# Altium schematic symbol library GRC sch library.SchLib: 282 symbols (part 1 of 3)
Pins are listed as number, name and electrical type; pins without a type are passive.

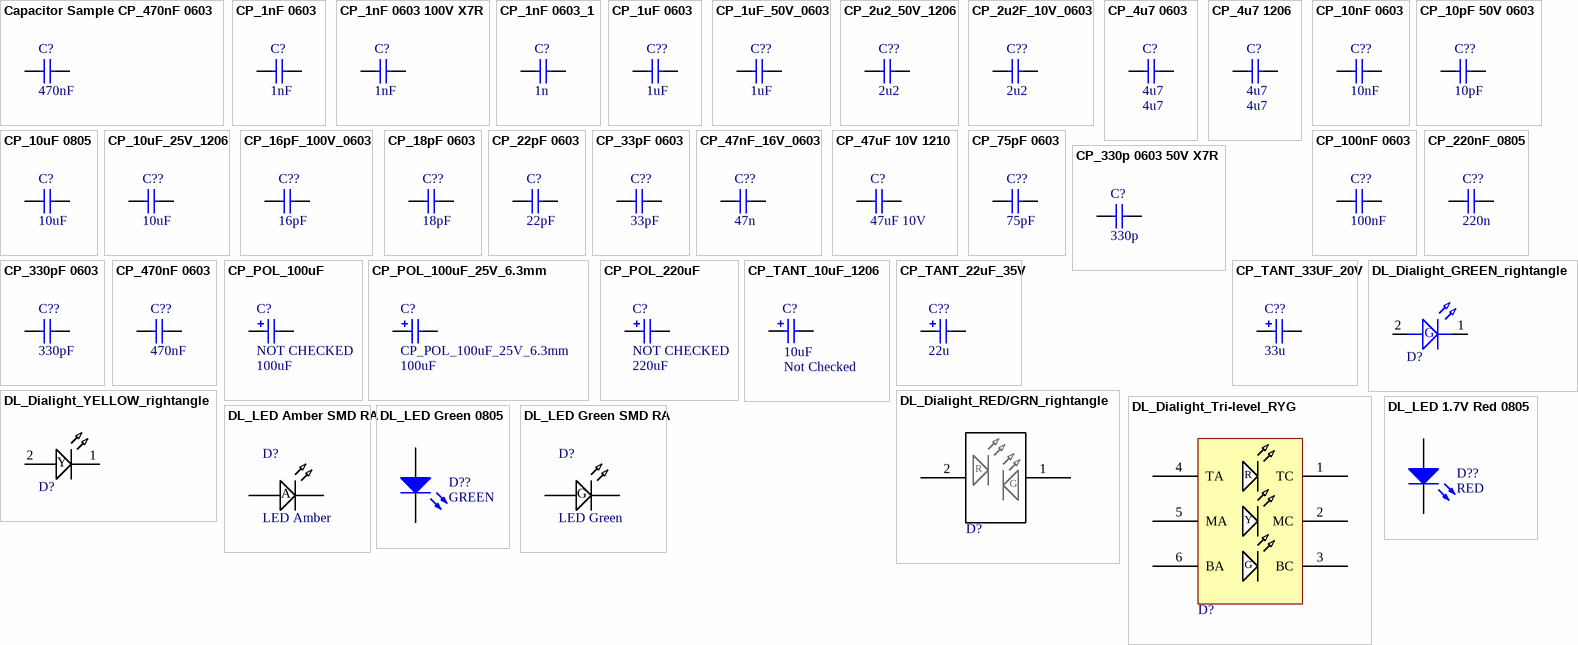
[diagram p0: symbols Capacitor Sample CP_470nF 0603 to DL_LED Green SMD RA]

## Capacitor Sample CP_470nF 0603
designator C?, comment 470nF
470nF 25V X5R 0603; Manufacturer: Taiyo Yuden; Manufacturer PN: TMK107BJ474KA-T; Prototype: Digikey 587-1247-1-ND; Value: 470nF
simulation model CAP (Capacitor)
signal-integrity model Cap
footprint 0603 (Non polarized 0603 footprint)
pins: 1, 2

## CP_1nF 0603
designator C?, comment 1nF
CAP CER 1000PF 50V 5% C0G 0603; Manufacturer: Murata Electronics North America; Manufacturer PN: GRM1885C1H102JA01D; Prototype: Digikey 490-1451-1-ND; LatestRevisionDate: 1 Jun 08; Value: 1nF
simulation model CAP (Capacitor)
signal-integrity model Cap
footprint 0603 (Non polarized 0603 footprint)
pins: 1, 2

## CP_1nF 0603 100V X7R
designator C?, comment 1nF
CAP CER 1000PF 100V X7R 0603; Manufacturer: Taiyo Yuden; Manufacturer PN: HMK107B7102KA-T; Prototype: Digikey 587-1445-1-ND; Value: 1nF
simulation model CAP (Capacitor)
signal-integrity model Cap
footprint 0603 (Non polarized 0603 footprint)
pins: 1, 2

## CP_1nF 0603_1
designator C?, comment 1n
CAP CER 1000PF 50V 5% C0G 0603; Manufacturer: Murata Electronics North America; Manufacturer PN: GRM1885C1H102JA01D; Prototype: Digikey 490-1451-1-ND; LatestRevisionDate: 1 Jun 08; Value: 1n
simulation model CAP (Capacitor)
signal-integrity model Cap
footprint 0603 (Non polarized 0603 footprint)
pins: 1, 2

## CP_1uF 0603
designator C??, comment 1uF
CAP CER 1.0UF 50V X5S 0603; Manufacturer: Taiyo Yuden; Manufacturer PN: UMK107C5105KA-T; Prototype: Digikey 587-1257-1-ND; Value: 1uF
simulation model CAP (Capacitor)
signal-integrity model Cap
footprint 0603 (Non polarized 0603 footprint)
pins: 1, 2

## CP_1uF_50V_0603
designator C??, comment 1uF
CAP CER 1.0UF 50V X5S 0603; Manufacturer: Taiyo Yuden; Manufacturer PN: UMK107C5105KA-T; Prototype: Digikey 587-1257-1-ND; Value: 1uF
simulation model CAP (Capacitor)
signal-integrity model Cap
footprint 0603 (Non polarized 0603 footprint)
pins: 1, 2

## CP_2u2_50V_1206
designator C??  value 2u2  (hidden comment: CP_2u2_50V_1206)
CAP CER 2u2 50V Y5V 1206; Manufacturer: Taiyo Yuden; Manufacturer PN: UMK316F225ZG-T; Prototype: Digikey 587-1351-1-ND; LatestRevisionDate: 29 May 08
simulation model CAP (Capacitor)
signal-integrity model Cap
footprint 1206 (Non-polarized 1206 footprint)
pins: 1, 2

## CP_2u2F_10V_0603
designator C??, comment 2u2
CAP CER 2.2UF 10V 10% X5R 0603; Manufacturer: Murata Electronics North America; Manufacturer PN: GRM188R61A225KE34D; Prototype: Digikey 490-1545-1-ND; Verify: not verified; LatestRevisionDate: 20 Feb 08; Value: 2u2
simulation model CAP (Capacitor)
signal-integrity model Cap
footprint 0603 (Non polarized 0603 footprint)
pins: 1, 2

## CP_4u7 0603
designator C?, comment 4u7
CAP CER 4.7UF 10V X5R 0603; Manufacturer: Taiyo Yuden LMK107BJ475KA-T; Prototype: Digikey 587-1441-1-ND; Modified Date: 29 May 08; LatestRevisionDate: 29 May 08; Value: 4u7
simulation model CAP (Capacitor)
footprint 0603 (Non polarized 0603 footprint)
pins: 1, 2

## CP_4u7 1206
designator C?, comment 4u7
CAP 4.7uF 10% 50V X5R 1206; Manufacturer: Taiyo Yuden UMK316BJ475KL-T; Prototype: Digikey 587-1962-2-ND; Modified Date: 29 May 08; LatestRevisionDate: 29 May 08; Value: 4u7
footprint 1206 (Non-polarized 1206 footprint)
simulation model CAP (Capacitor)
pins: 1, 2

## CP_10nF 0603
designator C??, comment 10nF
CAP CER 10000PF 100V X7R 0603; Manufacturer: Taiyo Yuden; Manufacturer PN: HMK107B7103KA-T; Prototype: Digikey 587-1446-1-ND; Value: 10nF
simulation model CAP (Capacitor)
signal-integrity model Cap
footprint 0603 (Non polarized 0603 footprint)
pins: 1, 2

## CP_10pF 50V 0603
designator C??, comment 10pF
CAP CERAMIC 10PF 50V NP0 0603; Manufacturer: Kemet; Manufacturer PN: C0603C100J5GACTU; Prototype: Digikey 399-1049-1-ND; Value: 10pF
simulation model CAP (Capacitor)
signal-integrity model Cap
footprint 0603 (Non polarized 0603 footprint)
pins: 1, 2

## CP_10uF 0805
designator C?, comment 10uF
CAP 10uF 10% 10V X5R 0805; Manufacturer: Murata; Manufacturer PN: GRM219R61A106KE44D; Prototype: Digikey 490-4735-1-ND; LatestRevisionDate: 29 May 08; Value: 10uF
footprint 0805 (Footprint not found)
pins: 1, 2

## CP_10uF_25V_1206
designator C??  value 10uF  (hidden comment: CP_10uF_25V_1206)
CAP CER 10uF 25V X5R 1206; Manufacturer: Panasonic; Manufacturer PN: ECJ-3YB1E106; Prototype: Digikey PCC2414CT-ND; LatestRevisionDate: 25 June 09
simulation model CAP (Capacitor)
signal-integrity model Cap
footprint 1206 (Non-polarized 1206 footprint)
pins: 1, 2

## CP_16pF_100V_0603
designator C??, comment 16pF
CAP CER 16PF 100V 5% C0G 0603; Manufacturer: Murata; Manufacturer PN: GRM1885C2A160JA01D; Prototype: Digikey 490-1332-1-ND; Value: 16pF
simulation model CAP (Capacitor)
signal-integrity model Cap
footprint 0603 (Non polarized 0603 footprint)
pins: 1, 2

## CP_18pF 0603
designator C??, comment 18pF
CAP CER 18PF 50V 5% C0G 0603; Manufacturer: Murata Electronics North America; Manufacturer PN: GRM1885C1H180JA01D; Prototype: Digikey 490-1409-1-ND; LatestRevisionDate: 1 Jun 08; Value: 18pF
simulation model CAP (Capacitor)
signal-integrity model Cap
footprint 0603 (Non polarized 0603 footprint)
pins: 1, 2

## CP_22pF 0603
designator C?, comment 22pF
CAP 22pF 5% 50V NP0 0603; Manufacturer: Murata; Manufacturer PN: GRM1885C1H220JA01D; Prototype: Digikey 490-1411-2-ND; LatestRevisionDate: 29 May 08; Value: 22pF
footprint 0603 (Non polarized 0603 footprint)
pins: 1, 2

## CP_33pF 0603
designator C??, comment 33pF
CAP CERAMIC 33PF 50V NP0 0603; Manufacturer: Yageo; Manufacturer PN: CC0603JRNP09BN330; Prototype: Digikey 311-1064-1-ND; LatestRevisionDate: 29 May 08; Value: 33pF
simulation model CAP (Capacitor)
signal-integrity model Cap
footprint 0603 (Non polarized 0603 footprint)
pins: 1, 2

## CP_47nF_16V_0603
designator C??, comment 47n
CAP CER 47nF 16V 10% X7R 0603; Manufacturer: Murata; Manufacturer PN: GRM188R71C473KA01D; Prototype: Digikey 490-1529-1-ND; Verify: NOT VERIFIED; LatestRevisionDate: 20 Feb 08; Value: 47n
simulation model CAP (Capacitor)
signal-integrity model Cap
footprint 0603 (Non polarized 0603 footprint)
pins: 1, 2

## CP_47uF 10V 1210
designator C?, comment 47uF 10V
CAP CER 47uF 10V X5R 1210; Manufacturer: Murata; Manufacturer PN: GRM32ER61A476KE20L; Prototype: Digikey 490-3887-1-ND; LatestRevisionDate: 29 May 08; Value: 47uF 10V
footprint 1210 (Chip Resistor, 1210, Body 3.2 x 2.5 mm (LxW typ))
pins: 1, 2

## CP_75pF 0603
designator C??  value 75pF  (hidden comment: CP_75pF 0603)
CAP CER 75PF 50V 5% C0G 0603; Manufacturer: Murata Electronics; Manufacturer PN: GRM1885C1H750JA01D; Prototype: Digikey 490-1424-1-ND; LatestRevisionDate: 29 May 08
simulation model CAP (Capacitor)
signal-integrity model Cap
footprint 0603 (Non polarized 0603 footprint)
pins: 1, 2

## CP_100nF 0603
designator C??, comment 100nF
CAP CER .10UF 50V X5R 0603; Manufacturer: Taiyo Yuden; Manufacturer PN: UMK107B7104KA-T; Prototype: Digikey 587-1243-1-ND; LatestRevisionDate: 29 May 08; Value: 100nF
simulation model CAP (Capacitor)
signal-integrity model Cap
footprint 0603 (Non polarized 0603 footprint)
pins: 1, 2

## CP_220nF_0805
designator C??, comment 220n
CAP CER 220NF 50V 10% X7R 0805; Manufacturer: Taiyo Yuden; Manufacturer PN: UMK212B7224KG-T; Prototype: Digikey 587-1287-1-ND; LatestRevisionDate: 1 Jun 08; Value: 220n
simulation model CAP (Capacitor)
signal-integrity model Cap
footprint 0805
pins: 1, 2

## CP_330p 0603 50V X7R
designator C?, comment value 330p  (hidden comment: Cap)
CAP 330PF 50V CERAMIC X7R 0603; Manufacturer: Yageo; Manufacturer PN: CC0603KRX7R9BB331; Prototype: Digikey 311-1186-1-ND; Published: 8-Jun-2000; LatestRevisionDate: 17-Jul-2002; LatestRevisionNote: Re-released for DXP Platform.; Publisher: Altium Limited
simulation model CAP (Capacitor)
signal-integrity model Cap
footprint 0603 (Non polarized 0603 footprint)
pins: 1, 2

## CP_330pF 0603
designator C??  value 330pF  (hidden comment: CP_330pF 0603)
CAP 330PF 50V CERAMIC X7R 0603; Manufacturer: Yageo; Manufacturer PN: CC0603KRX7R9BB331; Prototype: Digikey 311-1186-1-ND; LatestRevisionDate: 17-Jul-2002
simulation model CAP (Capacitor)
signal-integrity model Cap
footprint 0603 (Non polarized 0603 footprint)
pins: 1, 2

## CP_470nF 0603
designator C??, comment 470nF
470nF 25V X5R 0603; Manufacturer: Taiyo Yuden; Manufacturer PN: TMK107BJ474KA-T; Prototype: Digikey 587-1247-1-ND; LatestRevisionDate: 29 May 08; Value: 470nF
simulation model CAP (Capacitor)
signal-integrity model Cap
footprint 0603 (Non polarized 0603 footprint)
pins: 1, 2

## CP_POL_100uF
designator C?  value 100uF  Verify: NOT CHECKED  (hidden comment: CP_POL_100uF)
Polarized Capacitor (Radial); Manufacturer: Nichicon; Manufacturer PN: UVR1E101MED; Prototype: Farnell 1136208 Digikey 493-1061-ND; Latest Revision Date: 12 January 09
simulation model CAP (Capacitor)
signal-integrity model Cap Pol
footprint CAP_ELECTRO_6.3x11 (Electrolytic Capacitor D=6.3, L=11 (Minature Aluminium YXF))
pins: 1, 2
1 alternate drawing of the same symbol

## CP_POL_100uF_25V_6.3mm
designator C?  value 100uF
Polarized Capacitor (Radial); Manufacturer: Multicomp; Manufacturer PN: MCGPR25V107M6.3X11-RH; Prototype: Farnell 1136208; LatestRevisionDate: 7 Janurary 09
footprint RB7.6-15 (Polarized Capacitor (Radial); 2 Leads)
footprint HA-C1 (Capacitor, Radial, Tantalum; Body 1.7 x 2.8 mm (Dia.xH max); Pin Spacing 1.27 mm (typ))
footprint A (Capacitor, Electrolytic, Radial; Body 4 x 5 mm (Dia.xH typ); Pin Spacing 1.5 mm (typ))
footprint B (Capacitor, Electrolytic, Radial; Body 5 x 6.8 mm (Dia.xH typ); Pin Spacing 2 mm (typ))
footprint CAPPR5-5x5 (Capacitor, Electrolytic, Radial; Body 5 x 5 mm (Dia.xH typ); Pin Spacing 5 mm (typ))
footprint CAPPR7.5-16x35 (Capacitor, Electrolytic, Radial; Body 16 x 35 mm (Dia.xH typ); Pin Spacing 7.5 mm (typ))
simulation model CAP (Capacitor)
signal-integrity model Cap Pol
footprint CAP_ELECTRO_6.3x11 (Electrolytic Capacitor D=6.3, L=11 (Minature Aluminium YXF))
pins: 1, 2
1 alternate drawing of the same symbol

## CP_POL_220uF
designator C?  value 220uF  Verify: NOT CHECKED  (hidden comment: CP_POL_220uF)
Polarized Capacitor (Radial); Manufacturer: Nichicon; Manufacturer PN: UVR1C221MED; Prototype: Farnell 1136208 Digikey 493-1041-ND; Latest Revision Date: 12 January 09
simulation model CAP (Capacitor)
signal-integrity model Cap Pol
footprint CAP_ELECTRO_6.3x11 (Electrolytic Capacitor D=6.3, L=11 (Minature Aluminium YXF))
pins: 1, 2
1 alternate drawing of the same symbol

## CP_TANT_10uF_1206
designator C?, comment Verify: Not Checked  (hidden comment: 10uF)
CAP 10uF 20% 10V 300mOhm 1206; Manufacturer: AVX; Manufacturer PN: TCJA106M010R0300; Prototype: Digikey 478-3127-1-ND; Modified Date: 11 Jun 09; LatestRevisionDate: 11 Jun 09; Value: 10uF
footprint 1206P (Polarized 1206 footprint)
pins: 1, 2

## CP_TANT_22uF_35V
designator C??, comment value 22u  (hidden comment: CP_TANT_22uF)
CAP TANT 22UF 35V 10% SMD; Manufacturer: Vishay; Manufacturer PN: 293D226X9035D2TE3; Prototype: Digikey 718-1071-1-ND; Verify: NOT CHECKED; Latest Revision Date: 20 Feb 09
simulation model CAP (Capacitor)
signal-integrity model Cap Pol
footprint 7343 (7343 polarized footprint)
pins: 1, 2
1 alternate drawing of the same symbol

## CP_TANT_33UF_20V
designator C??, comment value 33u  (hidden comment: CP_TANT_33uF)
CAP TANT 33UF 20V 10% SMD; Manufacturer: Vishay; Manufacturer PN: TR3C336K020C0200; Prototype: Digikey 718-1507-1-ND; Latest Revision Date: 20 Feb 09
simulation model CAP (Capacitor)
signal-integrity model Cap Pol
footprint 6032 (6032 polarized footprint)
pins: 1, 2
1 alternate drawing of the same symbol

## DL_Dialight_GREEN_rightangle
designator D?  (value not drawn)
LED 3MM RT ANG HI EFF GRN PC MNT; Manufacturer P/N: 551-0209; Prototype: Digikey 350-1665-ND; Manufacturer: Dialight; Last Checked: n/a
footprint G_Dialight_One-level_3mm
pins: 1 C, 2 A
text: G

## DL_Dialight_RED/GRN_rightangle
designator D?  (value not drawn)
LED 3MM RTANG RED/GRN BICLR PCMT; Manufacturer: Dialight; Manufacturer P/N: 551-3009F; Prototype: Digikey 350-1684-ND; Last Checked: n/a
footprint G_Dialight_One-level_3mm
pins: 1 C, 2 A
text: R; G

## DL_Dialight_Tri-level_RYG
designator D?  (value not drawn)
LED 3HI 3MM RED/YEL/GRN PC MNT; Manufacturer: Dialight; Manufacturer P/N: 564-0100-132F; Prototype: Digikey 350-1751-ND; LastRevisionDate: n/a
footprint G_Dialight_Tri-level_3mm
pins: 1 TC, 2 MC, 3 BC, 4 TA, 5 MA, 6 BA
text: R; Y; G

## DL_Dialight_YELLOW_rightangle
designator D?  (value not drawn)
LED 3MM RT ANG HI EFF YEL PC MNT; Manufacturer: Dialight; Manufacturer P/N: 551-0309F; Prototype: Digikey 350-1667-ND; Last Checked: n/a
footprint G_Dialight_One-level_3mm
pins: 1 C, 2 A
text: Y

## DL_LED 1.7V Red 0805
designator D??, comment value RED  (hidden comment: LED Red)
Red LED 1.7V 0805; Manufacturer PN: 7012X1; Manufacturer: CML; Prototype: Digikey L61101CT-ND
simulation model LED0 (Diode)
footprint Diode_0805 (0805 SMD diode)
footprint Diode_0805
pins: 1 A, 2 K

## DL_LED Amber SMD RA
designator D?, comment LED Amber
Amber LED RA SMD; Manufacturer: Lumex Opto/Components Inc; Manufacturer PN: SSF-LXH305YD-TR; Prototype: Digikey 67-1376-1-ND; LatestRevisionDate: 29  May 08; Value: LED Amber
simulation model LED0 (Diode)
footprint LED_RA_SMD (LED SMD Righ Angle Lumex SSF-LHX series)
pins: 1 A, 2 K

## DL_LED Green 0805
designator D??, comment value GREEN  (hidden comment: LED Green)
Green LED 0805; Prototype: Digikey 751-1166-1-ND; Verify: Not checked; DigiKey: TLMG2100-GS08; Category: Vishay
simulation model LED0 (Diode)
footprint Diode_0805 (0805 SMD diode)
footprint Diode_0805
pins: 1 A, 2 K

## DL_LED Green SMD RA
designator D?, comment LED Green
Green LED RA SMD; Manufacturer: Lumex Opto/Components Inc; Manufacturer PN: SSF-LXH305GD-TR; Prototype: Digikey 67-1375-1-ND; LatestRevisiondate: 29 May 08; Value: LED Green
simulation model LED0 (Diode)
footprint LED_RA_SMD (LED SMD Righ Angle Lumex SSF-LHX series)
pins: 1 A, 2 K
text: G

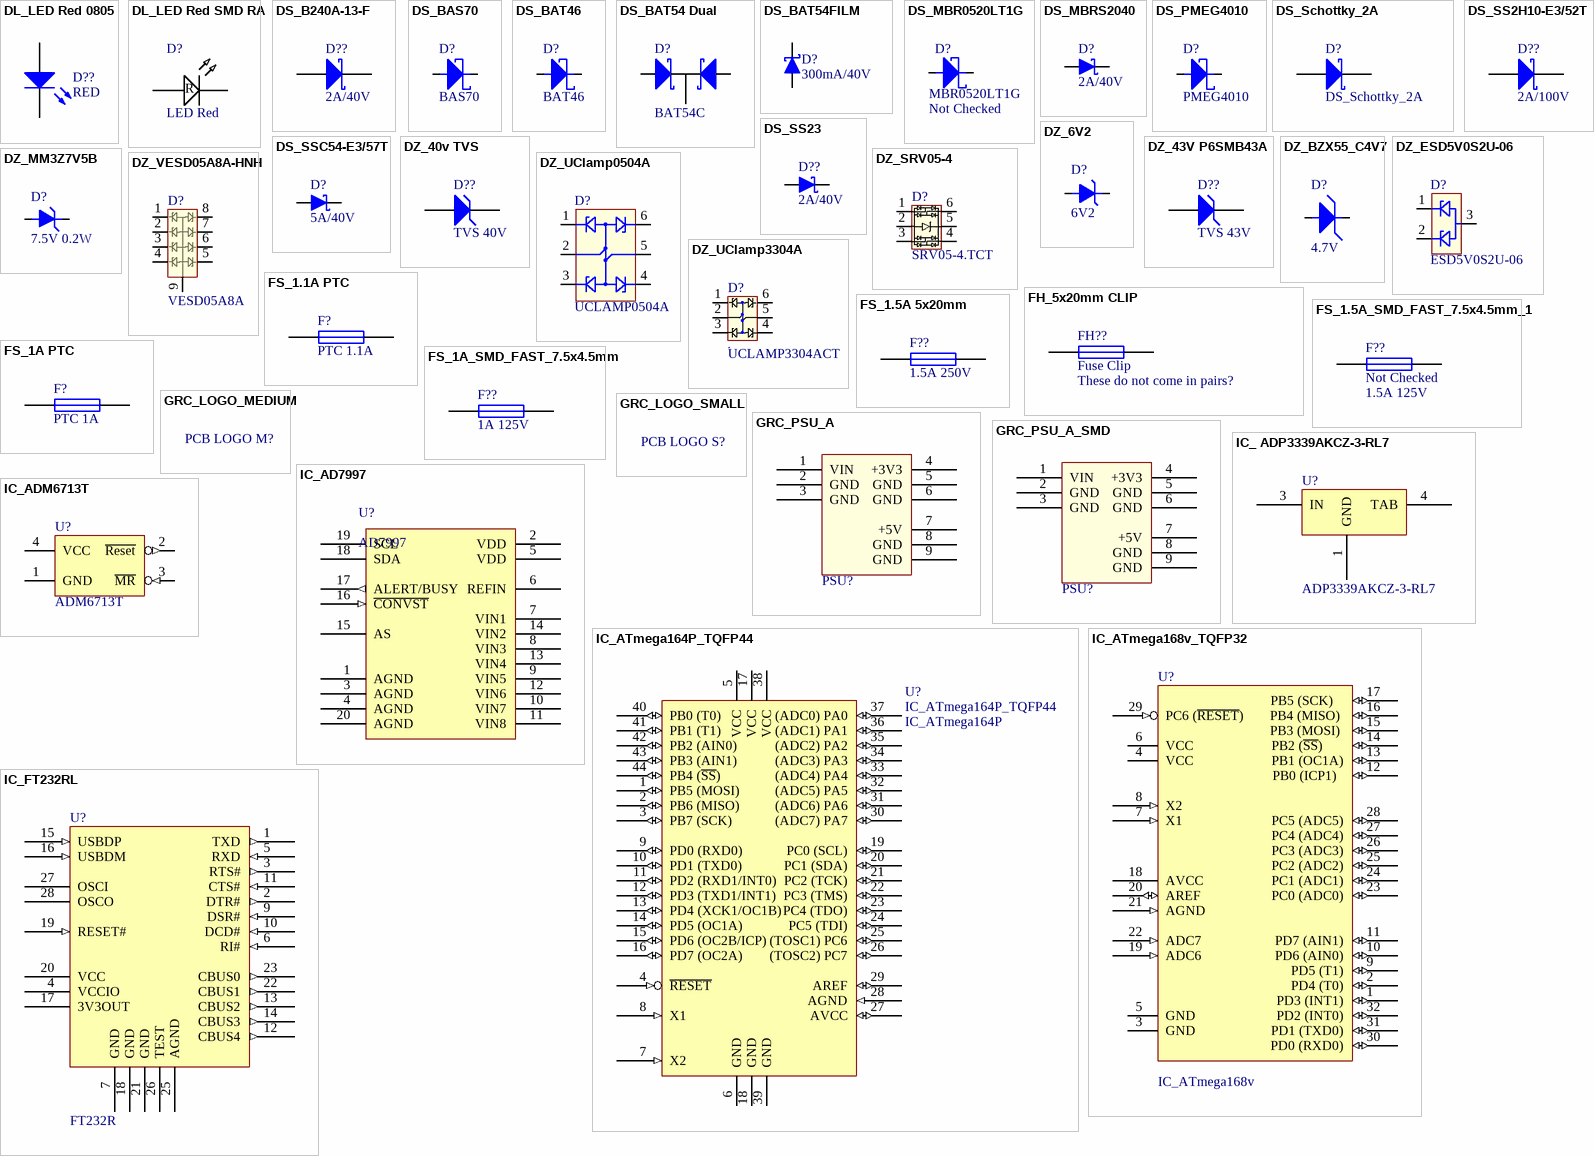
[diagram p1: symbols DL_LED Red 0805 to IC_FT232RL]

## DL_LED Red 0805
designator D??, comment value RED  (hidden comment: LED Red)
Red LED 0805; Manufacturer PN: TLMS2100-GS08; Manufacturer: Vishay; Prototype: Digikey 751-1183-1-ND
simulation model LED0 (Diode)
footprint Diode_0805 (0805 SMD diode)
footprint Diode_0805
pins: 1 A, 2 K

## DL_LED Red SMD RA
designator D?, comment LED Red
Red LED RA SMD; Manufacturer: Lumex Opto/Components Inc; Manufacturer PN: SSF-LXH305ID-TR; Prototype: Digikey 67-1374-1-ND; LatestRevisionDate: 29 may 08; Value: LED Red
simulation model LED0 (Diode)
footprint LED_RA_SMD (LED SMD Righ Angle Lumex SSF-LHX series)
pins: 1 A, 2 K
text: R

## DS_B240A-13-F
designator D??, comment 2A/40V
Schottky Diode - 2A/40V; Manufacturer: Diodes Inc; Manufacturer PN: B240A-13-F; Prototype: DigiKey B240A-FDICT-ND; LatestRevisionDate: 29 May 08; Value: 2A/40V
simulation model SKYDIODE (Diode)
signal-integrity model D Schottky
footprint SMA_DIODE (Diode SMA package)
pins: 1 A, 2 K

## DS_BAS70
designator D?, comment BAS70
DIODE SCHOTTKY 70V 200MA SOT23; Manufacturer: ST Micro; Manufacturer PN: BAS70-TP; Prototype: Digikey BAS70TPMSCT-ND; Value: BAS70
footprint SOT23 (SOT-23; 3 Leads; Body 3.0 x 2.6 mm, inc. leads (LxW max))
pins: 1 A, 3 K

## DS_BAT46
designator D?, comment BAT46
DIODE SCHOTTKY 150MA SGL SOT-23; Manufacturer: ST Micro; Manufacturer P/N: BAT46FILM; Prototype: Digikey 497-5709-1-ND; Value: BAT46
footprint SOT23 (SOT-23; 3 Leads; Body 3.0 x 2.6 mm, inc. leads (LxW max))
pins: 1 A, 3 K

## DS_BAT54 Dual
designator D?, comment BAT54C
DIODE SCHOTTKY DUAL 30V SOT23; Manufacturer: Diodes Inc; Manufacturer PN: BAT54C-7-F; Prototype: Digikey: BAT54C-FDICT-ND; LatestRevisionDate: 3 Jun 08; Value: BAT54C
simulation model SKYDIODE (Diode)
signal-integrity model D Schottky
footprint SOT23 (SOT-23; 3 Leads; Body 3.0 x 2.6 mm, inc. leads (LxW max))
pins: 1 A1, 2 A2, 3 K

## DS_BAT54FILM
designator D?, comment 300mA/40V
IC DIODE SCHOTTKY SS SOT-23; Manufacturer: ST; Manufacturer PN: BAT54FILM; Prototype: DigiKey 497-7162-1-ND; Verify: Not Checked; LatestRevisionDate: 25 Feb 09; Value: 300mA/40V
simulation model SKYDIODE (Diode)
signal-integrity model D Schottky
footprint SOT23 (SOT-23; 3 Leads; Body 3.0 x 2.6 mm, inc. leads (LxW max))
pins: 1 A, 3 K

## DS_MBR0520LT1G
designator D?, comment Verify: Not Checked  (hidden comment: MBR0520LT1G)
DIODE SCHOTTKY 20V 0.5A SOD123; Manufacturer: ON Semiconductor; Prototype: Digikey MBR0520LT1GOSCT-ND; Manufacturer PN: MBR0520LT1G; Value: MBR0520LT1G
footprint SOD123 (SOD-123; 2 Leads; Body 2.7 x 1.6 mm, (LxW))
pins: 1 A, 2 K

## DS_MBRS2040
designator D?, comment 2A/40V
DIODE SCHOTTKY 40V 2A SMB; Manufacturer: On Semi; Manufacturer PN: MBRS2040LT3G; Prototype: DigiKey MBRS2040LT3GOSCT-ND; Verify: Not Checked; LatestRevisionDate: 24 Feb 09; Value: 2A/40V
simulation model SKYDIODE (Diode)
signal-integrity model D Schottky
footprint SMB_DIODE (Molded Diode, 2-Leads, Body 4.6x3.9mm, IPC Medium Density)
pins: 1 A, 2 K

## DS_PMEG4010
designator D?, comment PMEG4010
DIODE PMEG4010EJ Schottky 40V 1A SOD-323F; Manufacturer: NXP; Manufacturer PN: PMEG4010EJ T/R; Prototype: Digikey 568-4137-1-ND; LatestRevisionDate: 29 May 08; Value: PMEG4010
footprint SOD323 (Diode SOD323)
pins: 1 A, 2 K

## DS_Schottky_2A
designator D?
Schottky Diode, 2A forward current; Manufacturer: NXP Semiconductors; Manufacturer PN: PMEG3020EJ T/R; Prototype: Digikey 568-4130-2-ND; Verify: NOT CHECKED; LatestRevisionDate: 12 January 09
simulation model SKYDIODE (Diode)
signal-integrity model D Schottky
footprint SC-90 SMD Case (SC-90 or SOD323F Surface Mount Package)
pins: 1 A, 2 K

## DS_SS2H10-E3/52T
designator D??, comment 2A/100V
Schottky Diode - 2A/100V; Manufacturer: Vishay/General Semiconductor; Manufacturer PN: SS2H10-E3/52T; Prototype: DigiKey SS2H10-E3/52TGICT-ND; LatestRevisionDate: 29 may 08; Value: 2A/100V
simulation model SKYDIODE (Diode)
signal-integrity model D Schottky
footprint SMB_DIODE (Molded Diode, 2-Leads, Body 4.6x3.9mm, IPC Medium Density)
pins: 1 A, 2 K

## DS_SS23
designator D??, comment 2A/40V
Schottky Diode - 2A/30V; Manufacturer: Fairchild; Manufacturer PN: SS23; Prototype: DigiKey SS23CT-ND; LatestRevisionDate: 20 Feb 09; Value: 2A/40V
simulation model SKYDIODE (Diode)
signal-integrity model D Schottky
footprint SMB_DIODE (Molded Diode, 2-Leads, Body 4.6x3.9mm, IPC Medium Density)
pins: 1 A, 2 K

## DS_SSC54-E3/57T
designator D?, comment 5A/40V
DIODE SCHOTTKY 5A 40V SMC; Manufacturer: Vishay; Manufacturer PN: SSC54-E3/57T; Prototype: DigiKey SSC54-E3/57TGICT-ND; Verify: Not Checked; LatestRevisionDate: 2 Mar 09; Value: 5A/40V
footprint DIODE_SMC (Magnetic-Core Inductor with Winding Polarity Marking; 2 Leads)
pins: 1 A, 2 K

## DZ_6V2
designator D?, comment 6V2
DIODE ZENER 500MW 6.2V LF SOD123; Manufacturer: Diodes; Manufacturer P/N: DDZ9691-7; Prototype: Digikey DDZ9691DICT-ND; Verify: Not Checked; Value: 6V2
footprint SOD123 (SOD-123; 2 Leads; Body 2.7 x 1.6 mm, (LxW))
pins: 1 A, 2 K

## DZ_40v TVS
designator D??, comment TVS 40V
DIODE TVS 40V 600W UNIDIR  SMB; Manufacturer: LittelFuse; Manufacturer PN: SMBJ36A; Prototype: Digikey   SMBJ36ALFCT-ND; LatestRevisionDate: 29 May 08; Value: TVS 40V
simulation model ZENER (Diode)
signal-integrity model D Zener
footprint SMB_DIODE (Molded Diode, 2-Leads, Body 4.6x3.9mm, IPC Medium Density)
pins: 1 A, 2 K

## DZ_43V P6SMB43A
designator D??, comment TVS 43V
DIODE TVS 43V 600W UNIDIR 5% SMD; Manufacturer: LittelFuse; Manufacturer PN: P6SMB43A; Prototype: DigiKey P6SMB43ALFCT-ND; LatestRevisionDate: 29 May 08; Value: TVS 43V
simulation model ZENER (Diode)
signal-integrity model D Zener
footprint SMB_DIODE (Molded Diode, 2-Leads, Body 4.6x3.9mm, IPC Medium Density)
pins: 1 A, 2 K

## DZ_BZX55_C4V7
designator D?, comment 4.7V
Diode, Zener, 4.7V 500mW; Manufacturer: Comchip; Manufacturer P/N: CZRU52C4V7; Prototype: Digikey 641-1028-1-ND; Value: 4.7V
footprint G_0603_POLARIZED (Polarized 0603 footprint)
pins: 1 A, 2 K

## DZ_ESD5V0S2U-06
designator D?, comment ESD5V0S2U-06
DIODES TVS 5V UNI/BIDIRECT SOT-23; Manufacturer: Infineon; Manufacturer PN: ESD5V0S2U-06 E6327; Prototype: Digikey ESD5V0S2U-06E6327INCT-ND; Verify: Not Checked; LatestRevisionDate: 25 Feb 09; Value: ESD5V0S2U-06
footprint sot23 (SOT-23; 3 Leads; Body 3.0 x 2.6 mm, inc. leads (LxW max))
pins: 1 0, 2 0, 3 1 (power)

## DZ_MM3Z7V5B
designator D?, comment 7.5V 0.2W
DIODE ZENER 200MW 7.5V SOD-323F; Manufacturer: Fairchild; Manufacturer P/N: MM3Z7V5B; Prototype: Digikey MM3Z7V5BCT-ND; Verify: Not Checked; Value: 7.5V 0.2W
footprint sod323 (Diode SOD323)
pins: 1 A, 2 K

## DZ_SRV05-4
designator D?, comment SRV05-4.TCT
IC TVS ARRAY 4-LINE 5V SOT23-6; Manufacturer: Semtech; Prototype: Digikey SRV05-4CT-ND; Manufacturer PN: SRV05-4.TCT; LatestRevisionDate: 29 May 08; Value: SRV05-4.TCT
footprint SOT23-6 (SOT-23/SC-74A; 6 Leads; Body 3.1 x 3 mm, inc. leads (LxW max))
pins: 1 0, 2 0 (power), 3 1, 4, 5 (power), 6

## DZ_UClamp0504A
designator D?, comment UCLAMP0504A
IC TVS ARRAY 4LINE ESD 5V SC-89; Manufacturer: Semtech; Manufacturer PN: UCLAMP0504A.TCT; Prototype: Digikey UCLAMP0504ACT-ND; LatestRevisionDate: 23 Feb 09; Value: UCLAMP0504A
footprint SOT666 (SOT666 (SC-89) footprint)
pins: 1 0, 2 0 (power), 3 1, 4, 5 (power), 6

## DZ_UClamp3304A
designator D?, comment UCLAMP3304ACT
IC TVS ARRAY 4-LINE 3.3V SC89-6; Manufacturer: Semtech; Manufacturer PN: UCLAMP3304A.TCT; Prototype: Digikey UCLAMP3304ACT-ND; LatestRevisionDate: 29 May 08; Value: UCLAMP3304ACT
footprint SOT666 (SOT666 (SC-89) footprint)
pins: 1 0, 2 0 (power), 3 1, 4, 5 (power), 6

## DZ_VESD05A8A-HNH
designator D?, comment VESD05A8A
8-Line ESD-Protection Diode Array in LLP1713-9L; Manufacturer: Vishay/Semiconductors; Manufacturer PN: VESD05A8A-HNH-GS08; Prototype: Digikey 751-1435-1-ND; LatestRevisionDate: 29 May 08; Value: VESD05A8A
footprint LLP1713-9L
pins: 1 0, 2 0, 3 1, 4 2, 5 3, 6 4, 7 5, 8 6, 9 7

## FH_5x20mm CLIP
designator FH??, comment Note: These do not come in pairs?  (hidden comment: Fuse Clip)
FUSE CLIP 2AG/5MM SMD W/HOLE 10A; Manufacturer: Keystone Electronics Corp.; Manufacturer PN: 3561; Prototype: Digikey 3561K-ND; LatestRevisionDate: 29 May 08; Value: Fuse Clip
simulation model FUSE (Spice Subcircuit)
footprint FUSE_5x20mm (Fuse socket SMT 5x20mm)
pins: 1, 2

## FS_1.1A PTC
designator F?, comment PTC 1.1A
PTC RESTTBLE 33V 1.10A CHIP 2920; Manufacturer: Bel Fuse; Manufacturer PN: 0ZCD0110FF2C; Prototype: Digikey 507-1367-1-ND; LatestRevisionDate: 23 Feb 09; Value: PTC 1.1A
simulation model FUSE (Spice Subcircuit)
footprint 2920
pins: 1, 2

## FS_1.5A 5x20mm
designator F??, comment 1.5A 250V
FUSE 1.5A 250V FAST GLS 5X20 UL; Manufacturer: Cooper/Bussmann; Manufacturer PN: BK/GMA-1.5-R; Prototype: Digikey 283-2834-ND; LatestRevisionDate: 29 May 08; Value: 1.5A 250V
simulation model FUSE (Spice Subcircuit)
pins: 1, 2

## FS_1.5A_SMD_FAST_7.5x4.5mm_1
designator F??, comment Verify: Not Checked  (hidden comment: 1.5A 125V)
FUSE FAST PICO SMD 1.5A 125V; Manufacturer: Littelfuse Inc; Manufacturer PN: 045901.5UR; Prototype: Digikey F1166CT-ND; LatestRevisionDate: 29 May 08; Value: 1.5A 125V
simulation model FUSE (Spice Subcircuit)
footprint FUSE_PICO_SMF (LittleFuse PICO SMF series SMT fuse)
pins: 1, 2

## FS_1A PTC
designator F?, comment PTC 1A
PTC RESETTABLE 6V 1A SMD 0805; Manufacturer: Littelfuse Inc; Manufacturer PN: 0805L100WR; Prototype: Digikey F2774CT-ND; LatestRevisionDate: 27/5/08; Value: PTC 1A
simulation model FUSE (Spice Subcircuit)
footprint 0805
pins: 1, 2

## FS_1A_SMD_FAST_7.5x4.5mm
designator F??, comment 1A 125V
FUSE FAST PICO SMD 1A 125V; Manufacturer: Littelfuse Inc; Manufacturer PN: 0459001.UR; Prototype: Digikey F1165CT-ND; LatestRevisionDate: 29 May 08; Value: 1A 125V
simulation model FUSE (Spice Subcircuit)
footprint FUSE_PICO_SMF (LittleFuse PICO SMF series SMT fuse)
pins: 1, 2

## GRC_LOGO_MEDIUM
designator PCB LOGO M?
GRC Logo Medium 40x20mm; Published: 24-Mar-1999; LatestRevisionDate: 17-Jul-2002; LatestRevisionNote: Re-released for DXP Platform.; PackageReference: SPST-2; Publisher: Altium Limited
footprint GRC_LOGO_40x20mm (GRC logo 4x2 cm)

## GRC_LOGO_SMALL
designator PCB LOGO S?
GRC Logo 20x10mm; Published: 24-Mar-1999; LatestRevisionDate: 17-Jul-2002; LatestRevisionNote: Re-released for DXP Platform.; PackageReference: SPST-2; Publisher: Altium Limited
footprint GRC_LOGO_20x10MM (GRC logo 2x1cm)

## GRC_PSU_A
designator PSU?
GRC Power Supply 4-36 Vin 3.3V 5V Vout 2A; Prototype: GRC
footprint GRC_PSU_A (GRC PSU 4-36 Vin 3V3 5V Vout footprint)
pins: 1 VIN (power), 2 GND (power), 3 GND (power), 4 +3V3 (power), 5 GND (power), 6 GND (power), 7 +5V (power), 8 GND (power), 9 GND (power)

## GRC_PSU_A_SMD
designator PSU?
SMD Version GRC Power Supply 4-36 Vin 3.3V 5V Vout 2A; Manufacturer: Molex/Waldom Electronics Corp for pins / GRC for PSU; Manufacturer PN: PINS:  68301-1014 / PSU: ????; Prototype: DigiKey 3 x WM17436-ND
footprint GRC_PSU_A_SMD (GRC PSU where the pins are on the host board - SMD version)
pins: 1 VIN (power), 2 GND (power), 3 GND (power), 4 +3V3 (power), 5 GND (power), 6 GND (power), 7 +5V (power), 8 GND (power), 9 GND (power)

## IC_ ADP3339AKCZ-3-RL7
designator U?  value ADP3339AKCZ-3-RL7  (hidden comment: *)
IC REG LDO 1.5A 3V SOT223-3; Manufacturer: Analog Devices; Prototype: Digikey ADP3339AKCZ-3-RL7CT-ND; Last revised: N/a; Manufacturer P/N: ADP3339AKCZ-3-RL7
footprint G_SOT223_4 (SOT223, 4 pins)
pins: 1 GND (power), 2 (power) hidden, 3 IN (power), 4 TAB (power)

## IC_AD7997
designator U?, comment AD7997
10-bit 8 channel ADC
footprint TSOP65P640-20AM (TSOP, 20-Leads, Body 6.5x4.4mm, Pitch 0.65mm, IPC Low Density)
pins: 1 AGND (power), 2 VDD (power), 3 AGND (power), 4 AGND (power), 5 VDD (power), 6 REFIN, 7 VIN1, 8 VIN3, 9 VIN5, 10 VIN7, 11 VIN8, 12 VIN6, 13 VIN4, 14 VIN2, 15 AS (hiz), 16 ~{CONVST} (in), 17 ALERT/BUSY (out), 18 SDA, 19 SCL, 20 AGND (power)

## IC_ADM6713T
designator U?, comment ADM6713T
IC SUPERVISOR OD 3.08V SC70-4; Manufacturer: Analog Devices Inc; Manufacturer PN: ADM6713TAKSZ-REEL7; Prototype: DigiKey ADM6713TAKSZ-REEL7CT-ND; LatestRevisionDate: 10 June 08; Value: ADM6713T
footprint SOT-343 (Footprint not found)
pins: 1 GND (power), 2 ~{Reset} (out), 3 ~{MR} (in), 4 VCC (power)

## IC_ATmega164P_TQFP44
designator U?  value IC_ATmega164P
ATMEGA164P-20AU TQFP44; Manufacturer: Atmel; Prototype: Digikey ATMEGA164P-20AU-ND; Manufacturer PN: ATMEGA164P-20AU
footprint TQFP-44
pins: 1 PB5 (MOSI) (io), 2 PB6 (MISO) (io), 3 PB7 (SCK) (io), 4 ~{RESET} (in), 5 VCC, 6 GND, 7 X2 (in), 8 X1 (in), 9 PD0 (RXD0) (io), 10 PD1 (TXD0) (io), 11 PD2 (RXD1/INT0) (io), 12 PD3 (TXD1/INT1) (io), 13 PD4 (XCK1/OC1B) (io), 14 PD5 (OC1A) (io), 15 PD6 (OC2B/ICP) (io), 16 PD7 (OC2A) (io), 17 VCC, 18 GND, 19 PC0 (SCL) (io), 20 PC1 (SDA) (io), 21 PC2 (TCK) (io), 22 PC3 (TMS) (io), 23 PC4 (TDO) (io), 24 PC5 (TDI) (io), 25 (TOSC1) PC6 (io), 26 (TOSC2) PC7 (io), 27 AVCC (io), 28 AGND (in), 29 AREF (io), 30 (ADC7) PA7 (io), 31 (ADC6) PA6 (io), 32 (ADC5) PA5 (io), 33 (ADC4) PA4 (io), 34 (ADC3) PA3 (io), 35 (ADC2) PA2 (io), 36 (ADC1) PA1 (io), 37 (ADC0) PA0 (io), 38 VCC (power), 39 GND (power), 40 PB0 (T0) (io), 41 PB1 (T1) (io), 42 PB2 (AIN0) (io), 43 PB3 (AIN1) (io), 44 PB4 (~{SS}) (io)

## IC_ATmega168v_TQFP32
designator U?  value IC_ATmega168v  (hidden comment: IC_ATmega168v_TQFP32)
ATMEGA168v TQFP32; Manufacturer: Atmel; Manufacturer PN: ATMEGA168V-10AU; Prototype: Digikey ATMEGA168V-10AU-ND
footprint 32A_N (32-Pin Thin Quad Flat Pack 0.8 mm Pitch, IPC Medium Density)
pins: 1 PD3 (INT1) (io), 2 PD4 (T0) (io), 3 GND (power), 4 VCC (power), 5 GND (power), 6 VCC (power), 7 X1 (in), 8 X2 (in), 9 PD5 (T1) (io), 10 PD6 (AIN0) (io), 11 PD7 (AIN1) (io), 12 PB0 (ICP1)   (io), 13 PB1 (OC1A) (io), 14 PB2 (~{SS})       (io), 15 PB3 (MOSI)  (io), 16 PB4 (MISO)  (io), 17 PB5 (SCK)    (io), 18 AVCC (power), 19 ADC6 (in), 20 AREF (io), 21 AGND (in), 22 ADC7 (in), 23 PC0 (ADC0) (io), 24 PC1 (ADC1) (io), 25 PC2 (ADC2) (io), 26 PC3 (ADC3) (io), 27 PC4 (ADC4) (io), 28 PC5 (ADC5) (io), 29 PC6 (~{RESET}) (in), 30 PD0 (RXD0) (io), 31 PD1 (TXD0) (io), 32 PD2 (INT0) (io)

## IC_FT232RL
designator U?, comment FT232R
USB UART with internal EEPROM and clock
footprint SSOP-28 (SOP, 28-Leads, Body 10.5x5.6mm (max), Pitch 0.65mm, IPC Medium Density)
pins: 1 TXD (out), 2 DTR# (out), 3 RTS# (out), 4 VCCIO (power), 5 RXD (in), 6 RI# (in), 7 GND (power), 8 NC hidden, 9 DSR# (in), 10 DCD# (in), 11 CTS# (in), 12 CBUS4 (out), 13 CBUS2 (out), 14 CBUS3 (out), 15 USBDP (in), 16 USBDM (in), 17 3V3OUT (power), 18 GND (power), 19 RESET# (in), 20 VCC (power), 21 GND (power), 22 CBUS1 (out), 23 CBUS0 (out), 24 NC hidden, 25 AGND (power), 26 TEST (power), 27 OSCI (power), 28 OSCO (power)

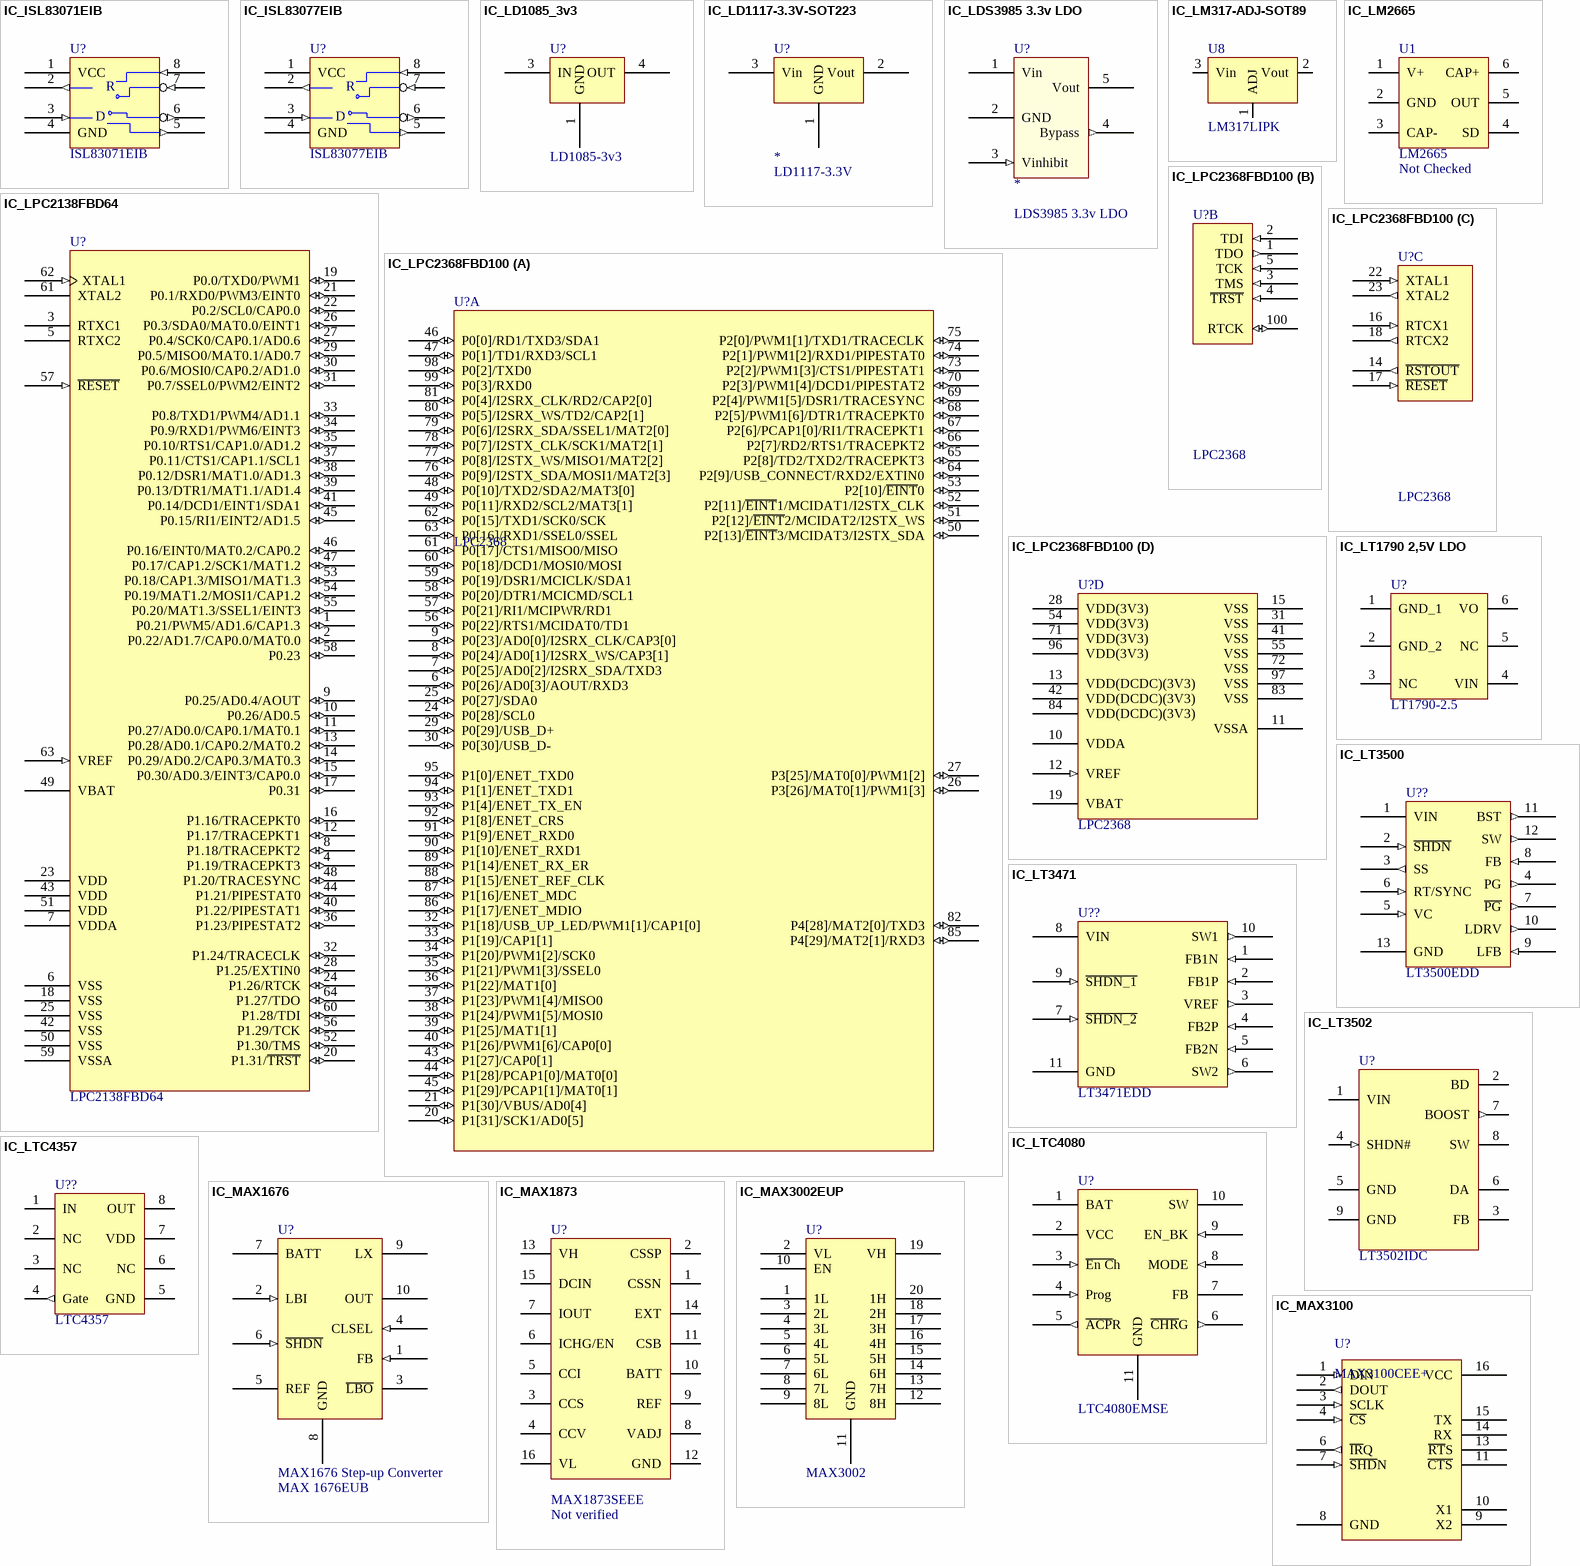
[diagram p2: symbols IC_ISL83071EIB to IC_MAX3100]

## IC_ISL83071EIB
designator U?, comment ISL83071EIB
TXRX ESD RS-485/422 LP 8-SOIC; Manufacturer: Intersil; Manufacturer PN: ISL83071EIBZA-T; Prototype: DigiKey ISL83071EIBZA-TCT-ND; LatestRevisionDate: 29 May 08; Value: ISL83071EIB
footprint SOIC8CN (SOIC, 8-Leads, Body 4.9x3.9mm, Pitch 1.27mm, IPC Medium Density)
pins: 1 VCC (power), 2 ROUT (out), 3 DIN (in), 4 GND (power), 5 D+ (out), 6 D- (out), 7 R- (in), 8 R+ (in)
text: R; D

## IC_ISL83077EIB
designator U?, comment ISL83077EIB
TXRX ESD 20MBPS RS-485/422 LP 8-SOIC; Manufacturer: Intersil; Manufacturer PN: ISL83077EIBZA-T; Prototype: DigiKey ISL83077EIBZA-TCT-ND; LatestRevisionDate: 29 May 08; Value: ISL83077EIB
footprint SOIC8CN (SOIC, 8-Leads, Body 4.9x3.9mm, Pitch 1.27mm, IPC Medium Density)
pins: 1 VCC (power), 2 ROUT (out), 3 DIN (in), 4 GND (power), 5 D+ (out), 6 D- (out), 7 R- (in), 8 R+ (in)
text: R; D

## IC_LD1085_3v3
designator U?  value LD1085-3v3  (hidden comment: *)
IC REG LDO POSITIVE 3.3V D2PAK; Manufacturer: ST Microelectronics; Manufacturer P/N: LD1085D2T33R; Prototype: Digikey 497-1222-1-ND; Last revised: N/a
footprint G_TO-263 (D2-PAK/TO-263-AB; 3 Leads (1 Cropped); Body 15.9 (inc. leads) x 10.4 mm (LxW max))
pins: 1 GND (power), 2 TAB (power) hidden to 3, 3 IN (power), 4 OUT (power)

## IC_LD1117-3.3V-SOT223
designator U?  value LD1117-3.3V
3.3V fixed LDO regulator, SOT-223 package; Manufacturer: STMicro; Manufacturer P/N: LD1117AS33TR; Prototype: Digikey 497-1228-1-ND
footprint SOT223 (SOT-223/SC-73; 4 Leads; Body 6.7 x 7.3 mm, inc. leads (LxW max))
pins: 1 GND (power), 2 Vout (power), 3 Vin (power), 4 Vout (power) hidden to Vout

## IC_LDS3985 3.3v LDO
designator U?  value LDS3985 3.3v LDO
3.3V LDO regulator; Manufacturer: STMicroelectronics; Manufacturer P/N: LDS3985M33R; Prototype: Digikey 497-4257-1-ND
footprint DBV005 (SOT-23/SC-74A; 5 Leads; Body 3 x 3 mm, inc. leads (LxW max))
pins: 1 Vin (power), 2 GND (power), 3 Vinhibit (in), 4 Bypass (out), 5 Vout (power)

## IC_LM317-ADJ-SOT89
designator U8, comment LM317LIPK
IC REG 3-TERM ADJ SOT89-3; Manufacturer: Texas; Prototype: Digikey 296-21742-1-ND; Verify: not checked; Manufacturer P/N: LM317LIPK; Value: LM317LIPK
footprint sot89 (SOT-89; Body 4.6 x 4.25 mm, inc. leads (LxW max))
pins: 1 ADJ (power), 2 Vout (power), 3 Vin (power)

## IC_LM2665
designator U1, comment Verify: Not Checked  (hidden comment: LM2665)
Switched Capacitor Voltage Converter; Manufacturer: National Semiconductor; Manufacturer PN: LM2665M6/NOPB; Prototype: Digikey LM2665M6CT-ND; LatestRevisionDate: 11 June 09; Value: LM2665
footprint SOT23-6 (SOT-23/SC-74A; 6 Leads; Body 3.1 x 3 mm, inc. leads (LxW max))
pins: 1 V+ (power), 2 GND, 3 CAP-, 4 SD, 5 OUT (power), 6 CAP+ (power)

## IC_LPC2138FBD64
designator U?, comment LPC2138FBD64
ARM7 16/32-Bit Microcontroller, 512KB Flash, 32KB RAM, 64-Lead LQFP; Manufacturer: NXP Semiconductors; Manufacturer PN: LPC2138FBD64/01-S; Prototype: DigiKey 568-4010-ND; LatestRevisionDate: 29 May 08; Value: LPC2138FBD64
footprint SOT314-2_N (Thin QFP, 64-Leads, Body 10x10mm, Pitch 0.5mm, IPC Medium Density)
pins: 1 P0.21/PWM5/AD1.6/CAP1.3 (io), 2 P0.22/AD1.7/CAP0.0/MAT0.0 (io), 3 RTXC1, 4 P1.19/TRACEPKT3 (io), 5 RTXC2, 6 VSS (power), 7 VDDA (power), 8 P1.18/TRACEPKT2 (io), 9 P0.25/AD0.4/AOUT (io), 10 P0.26/AD0.5 (io), 11 P0.27/AD0.0/CAP0.1/MAT0.1 (io), 12 P1.17/TRACEPKT1 (io), 13 P0.28/AD0.1/CAP0.2/MAT0.2 (io), 14 P0.29/AD0.2/CAP0.3/MAT0.3 (io), 15 P0.30/AD0.3/EINT3/CAP0.0 (io), 16 P1.16/TRACEPKT0 (io), 17 P0.31 (io), 18 VSS (power), 19 P0.0/TXD0/PWM1 (io), 20 P1.31/~{TRST} (io), 21 P0.1/RXD0/PWM3/EINT0 (io), 22 P0.2/SCL0/CAP0.0 (io), 23 VDD (power), 24 P1.26/RTCK (io), 25 VSS (power), 26 P0.3/SDA0/MAT0.0/EINT1 (io), 27 P0.4/SCK0/CAP0.1/AD0.6 (io), 28 P1.25/EXTIN0 (io), 29 P0.5/MISO0/MAT0.1/AD0.7 (io), 30 P0.6/MOSI0/CAP0.2/AD1.0 (io), 31 P0.7/SSEL0/PWM2/EINT2 (io), 32 P1.24/TRACECLK (io), 33 P0.8/TXD1/PWM4/AD1.1 (io), 34 P0.9/RXD1/PWM6/EINT3 (io), 35 P0.10/RTS1/CAP1.0/AD1.2 (io), 36 P1.23/PIPESTAT2 (io), 37 P0.11/CTS1/CAP1.1/SCL1 (io), 38 P0.12/DSR1/MAT1.0/AD1.3 (io), 39 P0.13/DTR1/MAT1.1/AD1.4 (io), 40 P1.22/PIPESTAT1 (io), 41 P0.14/DCD1/EINT1/SDA1 (io), 42 VSS (power), 43 VDD (power), 44 P1.21/PIPESTAT0 (io), 45 P0.15/RI1/EINT2/AD1.5 (io), 46 P0.16/EINT0/MAT0.2/CAP0.2 (io), 47 P0.17/CAP1.2/SCK1/MAT1.2 (io), 48 P1.20/TRACESYNC (io), 49 VBAT (power), 50 VSS (power), 51 VDD (power), 52 P1.30/TMS (io), 53 P0.18/CAP1.3/MISO1/MAT1.3 (io), 54 P0.19/MAT1.2/MOSI1/CAP1.2 (io), 55 P0.20/MAT1.3/SSEL1/EINT3 (io), 56 P1.29/TCK (io), 57 ~{RESET} (in), 58 P0.23 (io), 59 VSSA (power), 60 P1.28/TDI (io), 61 XTAL2, 62 XTAL1 (in), 63 VREF (in), 64 P1.27/TDO (io)

## IC_LPC2368FBD100
designator U?, comment LPC2368
ARM7 16/32-Bit Microcontroller, 512KB Flash, 58KB RAM, 4 Channel CAN, 100-Lead LQFP; Manufacturer PN: LPC2368FBD100-S; Manufacturer: NXP Semiconductors; Prototype: DigiKey 568-3997-ND; LatestRevisionDate: 29 May 08; Value: LPC2368
footprint SOT407-1_N (Thin QFP, 100-Leads, Body 14x14mm, Pitch 0.5mm, IPC Medium Density)
3D model LPC2368-QFP100 (PCB3D Model)
part A pins: 6 P0[26]/AD0[3]/AOUT/RXD3 (io), 7 P0[25]/AD0[2]/I2SRX_SDA/TXD3 (io), 8 P0[24]/AD0[1]/I2SRX_WS/CAP3[1] (io), 9 P0[23]/AD0[0]/I2SRX_CLK/CAP3[0] (io), 20 P1[31]/SCK1/AD0[5] (io), 21 P1[30]/VBUS/AD0[4] (io), 24 P0[28]/SCL0 (io), 25 P0[27]/SDA0 (io), 26 P3[26]/MAT0[1]/PWM1[3] (io), 27 P3[25]/MAT0[0]/PWM1[2] (io), 29 P0[29]/USB_D+ (io), 30 P0[30]/USB_D- (io), 32 P1[18]/USB_UP_LED/PWM1[1]/CAP1[0] (io), 33 P1[19]/CAP1[1] (io), 34 P1[20]/PWM1[2]/SCK0 (io), 35 P1[21]/PWM1[3]/SSEL0 (io), 36 P1[22]/MAT1[0] (io), 37 P1[23]/PWM1[4]/MISO0 (io), 38 P1[24]/PWM1[5]/MOSI0 (io), 39 P1[25]/MAT1[1] (io), 40 P1[26]/PWM1[6]/CAP0[0] (io), 43 P1[27]/CAP0[1] (io), 44 P1[28]/PCAP1[0]/MAT0[0] (io), 45 P1[29]/PCAP1[1]/MAT0[1] (io), 46 P0[0]/RD1/TXD3/SDA1 (io), 47 P0[1]/TD1/RXD3/SCL1 (io), 48 P0[10]/TXD2/SDA2/MAT3[0] (io), 49 P0[11]/RXD2/SCL2/MAT3[1] (io), 50 P2[13]/~{EINT}3/MCIDAT3/I2STX_SDA (io), 51 P2[12]/~{EINT}2/MCIDAT2/I2STX_WS (io), 52 P2[11]/~{EINT}1/MCIDAT1/I2STX_CLK (io), 53 P2[10]/~{EINT}0 (io), 56 P0[22]/RTS1/MCIDAT0/TD1 (io), 57 P0[21]/RI1/MCIPWR/RD1 (io), 58 P0[20]/DTR1/MCICMD/SCL1 (io), 59 P0[19]/DSR1/MCICLK/SDA1 (io), 60 P0[18]/DCD1/MOSI0/MOSI (io), 61 P0[17]/CTS1/MISO0/MISO (io), 62 P0[15]/TXD1/SCK0/SCK (io), 63 P0[16]/RXD1/SSEL0/SSEL (io), 64 P2[9]/USB_CONNECT/RXD2/EXTIN0 (io), 65 P2[8]/TD2/TXD2/TRACEPKT3 (io), 66 P2[7]/RD2/RTS1/TRACEPKT2 (io), 67 P2[6]/PCAP1[0]/RI1/TRACEPKT1 (io), 68 P2[5]/PWM1[6]/DTR1/TRACEPKT0 (io), 69 P2[4]/PWM1[5]/DSR1/TRACESYNC (io), 70 P2[3]/PWM1[4]/DCD1/PIPESTAT2 (io), 73 P2[2]/PWM1[3]/CTS1/PIPESTAT1 (io), 74 P2[1]/PWM1[2]/RXD1/PIPESTAT0 (io), 75 P2[0]/PWM1[1]/TXD1/TRACECLK (io), 76 P0[9]/I2STX_SDA/MOSI1/MAT2[3] (io), 77 P0[8]/I2STX_WS/MISO1/MAT2[2] (io), 78 P0[7]/I2STX_CLK/SCK1/MAT2[1] (io), 79 P0[6]/I2SRX_SDA/SSEL1/MAT2[0] (io), 80 P0[5]/I2SRX_WS/TD2/CAP2[1] (io), 81 P0[4]/I2SRX_CLK/RD2/CAP2[0] (io), 82 P4[28]/MAT2[0]/TXD3 (io), 85 P4[29]/MAT2[1]/RXD3 (io), 86 P1[17]/ENET_MDIO (io), 87 P1[16]/ENET_MDC (io), 88 P1[15]/ENET_REF_CLK (io), 89 P1[14]/ENET_RX_ER (io), 90 P1[10]/ENET_RXD1 (io), 91 P1[9]/ENET_RXD0 (io), 92 P1[8]/ENET_CRS (io), 93 P1[4]/ENET_TX_EN (io), 94 P1[1]/ENET_TXD1 (io), 95 P1[0]/ENET_TXD0 (io), 98 P0[2]/TXD0 (io), 99 P0[3]/RXD0 (io)
part B pins: 1 TDO (out), 2 TDI (in), 3 TMS (in), 4 ~{TRST} (in), 5 TCK (in), 100 RTCK (io)
part C pins: 14 ~{RSTOUT} (out), 16 RTCX1 (in), 17 ~{RESET} (in), 18 RTCX2 (out), 22 XTAL1 (in), 23 XTAL2 (out)
part D pins: 10 VDDA (power), 11 VSSA (power), 12 VREF (in), 13 VDD(DCDC)(3V3) (power), 15 VSS (power), 19 VBAT (power), 28 VDD(3V3) (power), 31 VSS (power), 41 VSS (power), 42 VDD(DCDC)(3V3) (power), 54 VDD(3V3) (power), 55 VSS (power), 71 VDD(3V3) (power), 72 VSS (power), 83 VSS (power), 84 VDD(DCDC)(3V3) (power), 96 VDD(3V3) (power), 97 VSS (power)

## IC_LT1790 2,5V LDO
designator U?, comment LT1790-2.5
REF LDO 2.5V MICROPWR SOT23-6; Manufacturer: Linear Technology; Manufacturer PN: LT1790BCS6-2.5#TRMPBF; Prototype: Digikey LT1790BCS6-2.5#TRMPBFCT-ND; LatestRevisionDate: 29 may 08; Value: LT1790-2.5
footprint SOT23-6 (SOT-23/SC-74A; 5 Leads; Body 3.1 x 3 mm, inc. leads (LxW max))
pins: 1 GND_1, 2 GND_2, 3 NC, 4 VIN, 5 NC, 6 VO

## IC_LT3471
designator U??, comment LT3471EDD
IC REG SW DUAL 1.3A 10-DFN; Manufacturer: Linear Technology; Manufacturer PN: LT3471EDD#PBF; Prototype: DigiKey LT3471EDD#PBF-ND; LatestRevisionDate: 29 May 08; Value: LT3471EDD
footprint 10-DFN (DD Package - 10-Lead Plastic DFN (3mm × 3mm))
pins: 1 FB1N (in), 2 FB1P (in), 3 VREF (out), 4 FB2P (in), 5 FB2N (in), 6 SW2 (out), 7 ~{SHDN_2} (in), 8 VIN (power), 9 ~{SHDN_1} (in), 10 SW1 (out), 11 GND (power)

## IC_LT3500
designator U??, comment LT3500EDD
IC REG STP-DWN 2A 12-DFN; Manufacturer: Linear Technology; Manufacturer PN: LT3500EDD#PBF; Prototype: DigiKey LT3500EDD#PBF-ND; LatestRevisionDate: 29 May 08; Value: LT3500EDD
footprint 12-DFN (DD Package - 12-Lead Plastic DFN (3mm × 3mm))
pins: 1 VIN (power), 2 ~{SHDN} (in), 3 SS (out), 4 PG (out), 5 VC (in), 6 RT/SYNC (in), 7 ~{PG} (out), 8 FB (in), 9 LFB (in), 10 LDRV (out), 11 BST (out), 12 SW (out), 13 GND (power)

## IC_LT3502
designator U?, comment LT3502IDC
LT3502IDCBuck Regulator 500mA 1.1Mhz 40V DFN-8; Manufacturer PN: LT3502IDC#TRMPBF; Manufacturer: Linear Technology; Prototype: Digikey LT3502IDC#TRMPBFTR-ND; LatestRevisionDate: 29 May 08; Value: LT3502IDC
footprint DFN-8(2x2) (2mm x 2mm DFN package with exposed pad)
pins: 1 VIN (power), 2 BD, 3 FB, 4 SHDN# (in), 5 GND (power), 6 DA, 7 BOOST (out), 8 SW, 9 GND (power)

## IC_LTC4080
designator U?, comment LTC4080EMSE
500mA Standalone Li-Ion Charger; Manufacturer: Linear Technology; Manufacturer PN: LTC4080EMSE#PBF; Prototype: Digikey LTC4080EMSE#PBF-ND; LatestRevisionDate: 29 May 08; Value: LTC4080EMSE
footprint 10-MSOP (10-Lead Plastic MSOP, Exposed Die Pad)
pins: 1 BAT (power), 2 VCC (power), 3 ~{En C}h (in), 4 Prog (in), 5 ~{ACP}R (out), 6 ~{CHR}G (out), 7 FB, 8 MODE (in), 9 EN_BK (in), 10 SW, 11 GND (power)

## IC_LTC4357
designator U??, comment LTC4357
Positive High Voltage Ideal Diode Controller; Manufacturer: Linear Technology; Manufacturer PN: LTC4357CMS8#PBF; Prototype: Digikey LTC4357CMS8#PBF-ND; LatestRevisionDate: 20 Feb 09; Value: LTC4357
footprint MSOP8 (8 lead Plastic MSOP package)
pins: 1 IN (power), 2 NC, 3 NC, 4 Gate (out), 5 GND (power), 6 NC, 7 VDD (power), 8 OUT (power)

## IC_MAX1676
designator U?, comment MAX1676 Step-up Converter  value MAX 1676EUB
High-efficiency, low-supply-current DC-DC Converter; Manufacturer: Maxim; Manufacturer PN: MAX1676EUB; Prototype: Digikey MAX1676EUB+-ND; Verify: Not checked
footprint G_UMAX10 (Shrink Small Outline; 10 Leads; Body Width 3 mm; Pitch 0.5 mm)
pins: 1 FB (in), 2 LBI (in), 3 ~{LBO} (oc), 4 CLSEL (in), 5 REF, 6 ~{SHDN} (in), 7 BATT (power), 8 GND, 9 LX (power), 10 OUT (power)

## IC_MAX1873
designator U?  value MAX1873SEEE  Verify: Not verified
Current Limited Switch-Mode Li+ Charger Controller; Manufacturer: Maxim; Prototype: Maxim MAX1873SEEE; LatestRevisionDate: 18 Feb 09; Manufacturer PN: MAX1873SEEE
footprint QSOP16 (SSOP; 16 Leads; Body Width 3.9 mm; Pitch 0.635 mm)
pins: 1 CSSN, 2 CSSP, 3 CCS, 4 CCV, 5 CCI, 6 ICHG/EN, 7 IOUT, 8 VADJ, 9 REF, 10 BATT, 11 CSB, 12 GND (power), 13 VH, 14 EXT, 15 DCIN (power), 16 VL

## IC_MAX3002EUP
designator U?, comment MAX3002
8-channel Bidirectional Level Translator
pins: 1 1L, 2 VL, 3 2L, 4 3L, 5 4L, 6 5L, 7 6L, 8 7L, 9 8L, 10 EN, 11 GND, 12 8H, 13 7H, 14 6H, 15 5H, 16 4H, 17 3H, 18 2H, 19 VH, 20 1H

## IC_MAX3100
designator U?, comment MAX3100CEE+
SPI UART
footprint QSOP16_MAX3100 (SSOP; 16 Leads; Body Width 3.9 mm; Pitch 0.635 mm)
pins: 1 DIN (in), 2 DOUT (out), 3 SCLK (in), 4 ~{CS} (in), 6 ~{IR}Q (out), 7 ~{SHD}N (in), 8 GND (power), 9 X2, 10 X1, 11 ~{CTS}, 13 ~{RT}S, 14 RX, 15 TX, 16 VCC (power)

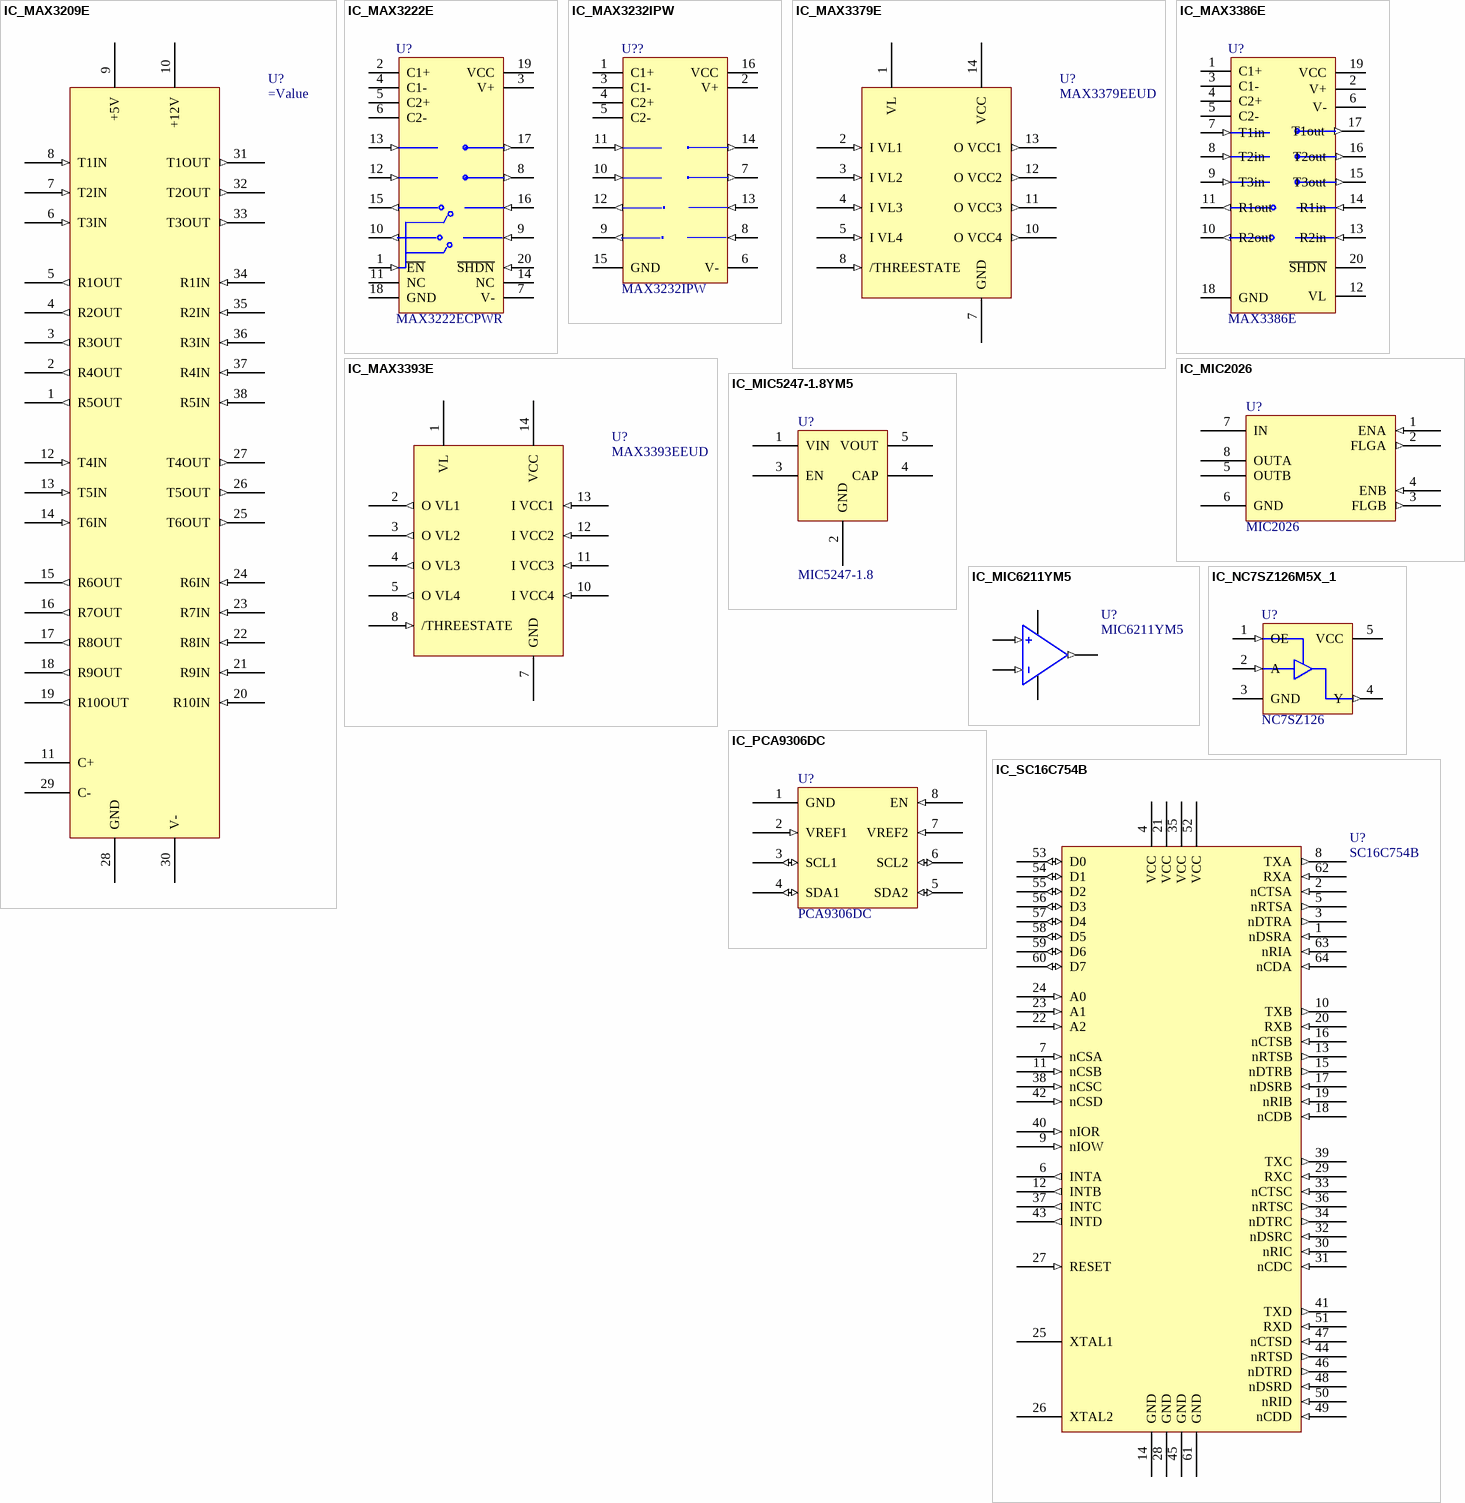
[diagram p3: symbols IC_MAX3209E to IC_SC16C754B]

## IC_MAX3209E
designator U?
6-tx 10-rx RS232 transciever with builtin inverter but no chargepump
footprint TSSOP-38 (TSSOP, 38-Leads, Body 9.6x4.5mm (max), Pitch 0.50mm, IPC Medium Density)
pins: 1 R5OUT (out), 2 R4OUT (out), 3 R3OUT (out), 4 R2OUT (out), 5 R1OUT (out), 6 T3IN (in), 7 T2IN (in), 8 T1IN (in), 9 +5V (power), 10 +12V (power), 11 C+, 12 T4IN (in), 13 T5IN (in), 14 T6IN (in), 15 R6OUT (out), 16 R7OUT (out), 17 R8OUT (out), 18 R9OUT (out), 19 R10OUT (out), 20 R10IN (in), 21 R9IN (in), 22 R8IN (in), 23 R7IN (in), 24 R6IN (in), 25 T6OUT (out), 26 T5OUT (out), 27 T4OUT (out), 28 GND (power), 29 C-, 30 V- (power), 31 T1OUT (out), 32 T2OUT (out), 33 T3OUT (out), 34 R1IN (in), 35 R2IN (in), 36 R3IN (in), 37 R4IN (in), 38 R5IN (in)

## IC_MAX3222E
designator U?, comment MAX3222ECPWR
3.0V TO 5.5V, Low-Power, up to 1Mbps, True RS-232 Transceiver Using Four 0.1µF External Capacitor; Manufacturer: Maxim; Prototype: Digikey 296-19820-1-ND; LatestRevisionDate: 29 May 08; Manufacturer PN: MAX3222ECPWR; Value: MAX3222ECPWR
footprint TSSOP20 (Shrink Small Outline; 20 Leads; Body Width 4.4 mm; Pitch 0.65 mm)
3D model TSSOP20 (PCB3D Model)
pins: 1 ~{EN} (in), 2 C1+, 3 V+ (power), 4 C1-, 5 C2+, 6 C2-, 7 V- (power), 8 T2OUT (out), 9 R2IN (in), 10 R2OUT (out), 11 NC, 12 T2IN (in), 13 T1IN (in), 14 NC, 15 R1OUT (out), 16 R1IN (in), 17 T1OUT (out), 18 GND (power), 19 VCC (power), 20 ~{SHDN} (in)

## IC_MAX3232IPW
designator U??, comment MAX3232IPW
3.0V TO 5.5V, Low-Power, up to 1Mbps, True RS-232 Transceiver Using Four 0.1µF External Capacitor; Manufacturer: Texas Instrument; Manufacturer PN: MAX3232IPWR; Prototype: DigiKey 296-13100-1-ND; LatestRevisionDate: 29 May 08; Value: MAX3232IPW
footprint TSSOP16 (Shrink Small Outline; 16 Leads; Body Width 4.4 mm; Pitch 0.65 mm)
pins: 1 C1+, 2 V+ (power), 3 C1-, 4 C2+, 5 C2-, 6 V- (power), 7 T2OUT (out), 8 R2IN (in), 9 R2OUT (out), 10 T2IN (in), 11 T1IN (in), 12 R1OUT (out), 13 R1IN (in), 14 T1OUT (out), 15 GND (power), 16 VCC (power)

## IC_MAX3379E
designator U?  value MAX3379EEUD  (hidden comment: *)
IC LVL XLTR LV 8MBPS 14-TSSOP; Manufacturer: Maxim; Manufacturer P/N: MAX3379EEUD+; Prototype: Digikey MAX3379EEUD+-ND; LastRevisionDate: n/a
footprint G_TSSOP14 (Shrink Small Outline; 16 Leads; Body Width 4.4 mm; Pitch 0.65 mm)
pins: 1 VL (power), 2 I VL1 (in), 3 I VL2 (in), 4 I VL3 (in), 5 I VL4 (in), 7 GND (power), 8 /THREESTATE (in), 10 O VCC4 (out), 11 O VCC3 (out), 12 O VCC2 (out), 13 O VCC1 (out), 14 VCC (power)

## IC_MAX3386E
designator U?, comment MAX3386E
3.0V TO 5.5V, Low-Power, up to 1Mbps, True RS-232 Transceiver Using Four 0.1µF External Capacitor; Manufacturer: Texas Instruments; Manufacturer PN: MAX3386EIPWR; Prototype: Digikey 296-19833-1-ND; LatestRevisionDate: 29 May 08; Value: MAX3386E
footprint TSSOP20 (Shrink Small Outline; 20 Leads; Body Width 4.4 mm; Pitch 0.65 mm)
3D model TSSOP20 (PCB3D Model)
pins: 1 C1+, 2 V+ (power), 3 C1-, 4 C2+, 5 C2-, 6 V- (power), 7 T1in (in), 8 T2in (in), 9 T3in (in), 10 R2out (out), 11 R1out (out), 12 VL, 13 R2in (in), 14 R1in (in), 15 T3out (out), 16 T2out (out), 17 T1out (out), 18 GND (power), 19 VCC (power), 20 ~{SHDN}

## IC_MAX3393E
designator U?  value MAX3393EEUD  (hidden comment: *)
IC LVL XLTR LV 8MBPS 14-TSSOP; Manufacturer: Maxim; Manufacturer P/N: MAX3393EEUD+; Prototype: Digikey MAX3393EEUD+-ND; LastRevisionDate: n/a
footprint G_TSSOP14 (Shrink Small Outline; 16 Leads; Body Width 4.4 mm; Pitch 0.65 mm)
pins: 1 VL (power), 2 O VL1 (out), 3 O VL2 (out), 4 O VL3 (out), 5 O VL4 (out), 7 GND (power), 8 /THREESTATE (in), 10 I VCC4 (in), 11 I VCC3 (in), 12 I VCC2 (in), 13 I VCC1 (in), 14 VCC (power)

## IC_MIC2026
designator U?, comment MIC2026
Dual USB power switch
pins: 1 ENA (in), 2 FLGA (out), 3 FLGB (out), 4 ENB (in), 5 OUTB (power), 6 GND (power), 7 IN (power), 8 OUTA (power)

## IC_MIC5247-1.8YM5
designator U?, comment MIC5247-1.8
1.8V linear regulator
pins: 1 VIN (power), 2 GND (power), 3 EN (power), 4 CAP (power), 5 VOUT (power)

## IC_MIC6211YM5
designator U?, comment MIC6211YM5
IC OP AMP GEN PURPOSE SOT23-5; Manufacturer: Micrel; Manufacturer PN: MIC6211YM5 TR; Prototype: Digikey 576-1314-1-ND; LatestRevisionDate: 3 Mar 09; Value: MIC6211YM5
footprint SOT23-5 (SOT23, 5 leads)
pins: 1 Vo (out), 2 V- (power), 3 In+ (in), 4 In- (in), 5 V+ (power)

## IC_NC7SZ126M5X_1
designator U?, comment NC7SZ126
IC BUFF UHS SGL 3-STATE SOT23-5; Manufacturer: Fairchild; Manufacturer PN: NC7SZ126M5X; Prototype: Digikey NC7SZ126M5XCT-ND; LatestRevisionDate: 25 Feb 09; Value: NC7SZ126
footprint SOT23-5 (SOT23, 5 leads)
pins: 1 OE (in), 2 A (in), 3 GND (power), 4 Y (out), 5 VCC (power)

## IC_PCA9306DC
designator U?, comment PCA9306DC
IC LEVEL TRANSLATOR I2C BUS 8VSSOP; Manufacturer: NXP Semiconductor; Prototype: DigiKey 568-4213-1-ND; Manufacturer PN: PCA9306DC; LatestRevisionDate: 29 May 08; Value: PCA9306DC
footprint VSSOP-8 (TSSOP, 8-Leads, Body 2.1x2.4mm (max), Pitch 0.50mm, IPC Medium Density)
pins: 1 GND (power), 2 VREF1 (in), 3 SCL1 (io), 4 SDA1 (io), 5 SDA2 (io), 6 SCL2 (io), 7 VREF2 (in), 8 EN (in)

## IC_SC16C754B
designator U?, comment SC16C754B
Quad high speed UARTs, bus connected
pins: 1 nDSRA (in), 2 nCTSA (in), 3 nDTRA (out), 4 VCC (power), 5 nRTSA (out), 6 INTA (out), 7 nCSA (in), 8 TXA (out), 9 nIOW (in), 10 TXB (out), 11 nCSB (in), 12 INTB (out), 13 nRTSB (out), 14 GND (power), 15 nDTRB (out), 16 nCTSB (in), 17 nDSRB (in), 18 nCDB (in), 19 nRIB (in), 20 RXB (in), 21 VCC (power), 22 A2 (in), 23 A1 (in), 24 A0 (in), 25 XTAL1 (power), 26 XTAL2 (power), 27 RESET (in), 28 GND (power), 29 RXC (in), 30 nRIC (in), 31 nCDC (in), 32 nDSRC (in), 33 nCTSC (in), 34 nDTRC (out), 35 VCC (power), 36 nRTSC (out), 37 INTC (out), 38 nCSC (in), 39 TXC (out), 40 nIOR (in), 41 TXD (out), 42 nCSD (in), 43 INTD (out), 44 nRTSD (out), 45 GND (power), 46 nDTRD (out), 47 nCTSD (in), 48 nDSRD (in), 49 nCDD (in), 50 nRID (in), 51 RXD (in), 52 VCC (power), 53 D0 (io), 54 D1 (io), 55 D2 (io), 56 D3 (io), 57 D4 (io), 58 D5 (io), 59 D6 (io), 60 D7 (io), 61 GND (power), 62 RXA (in), 63 nRIA (in), 64 nCDA (in)

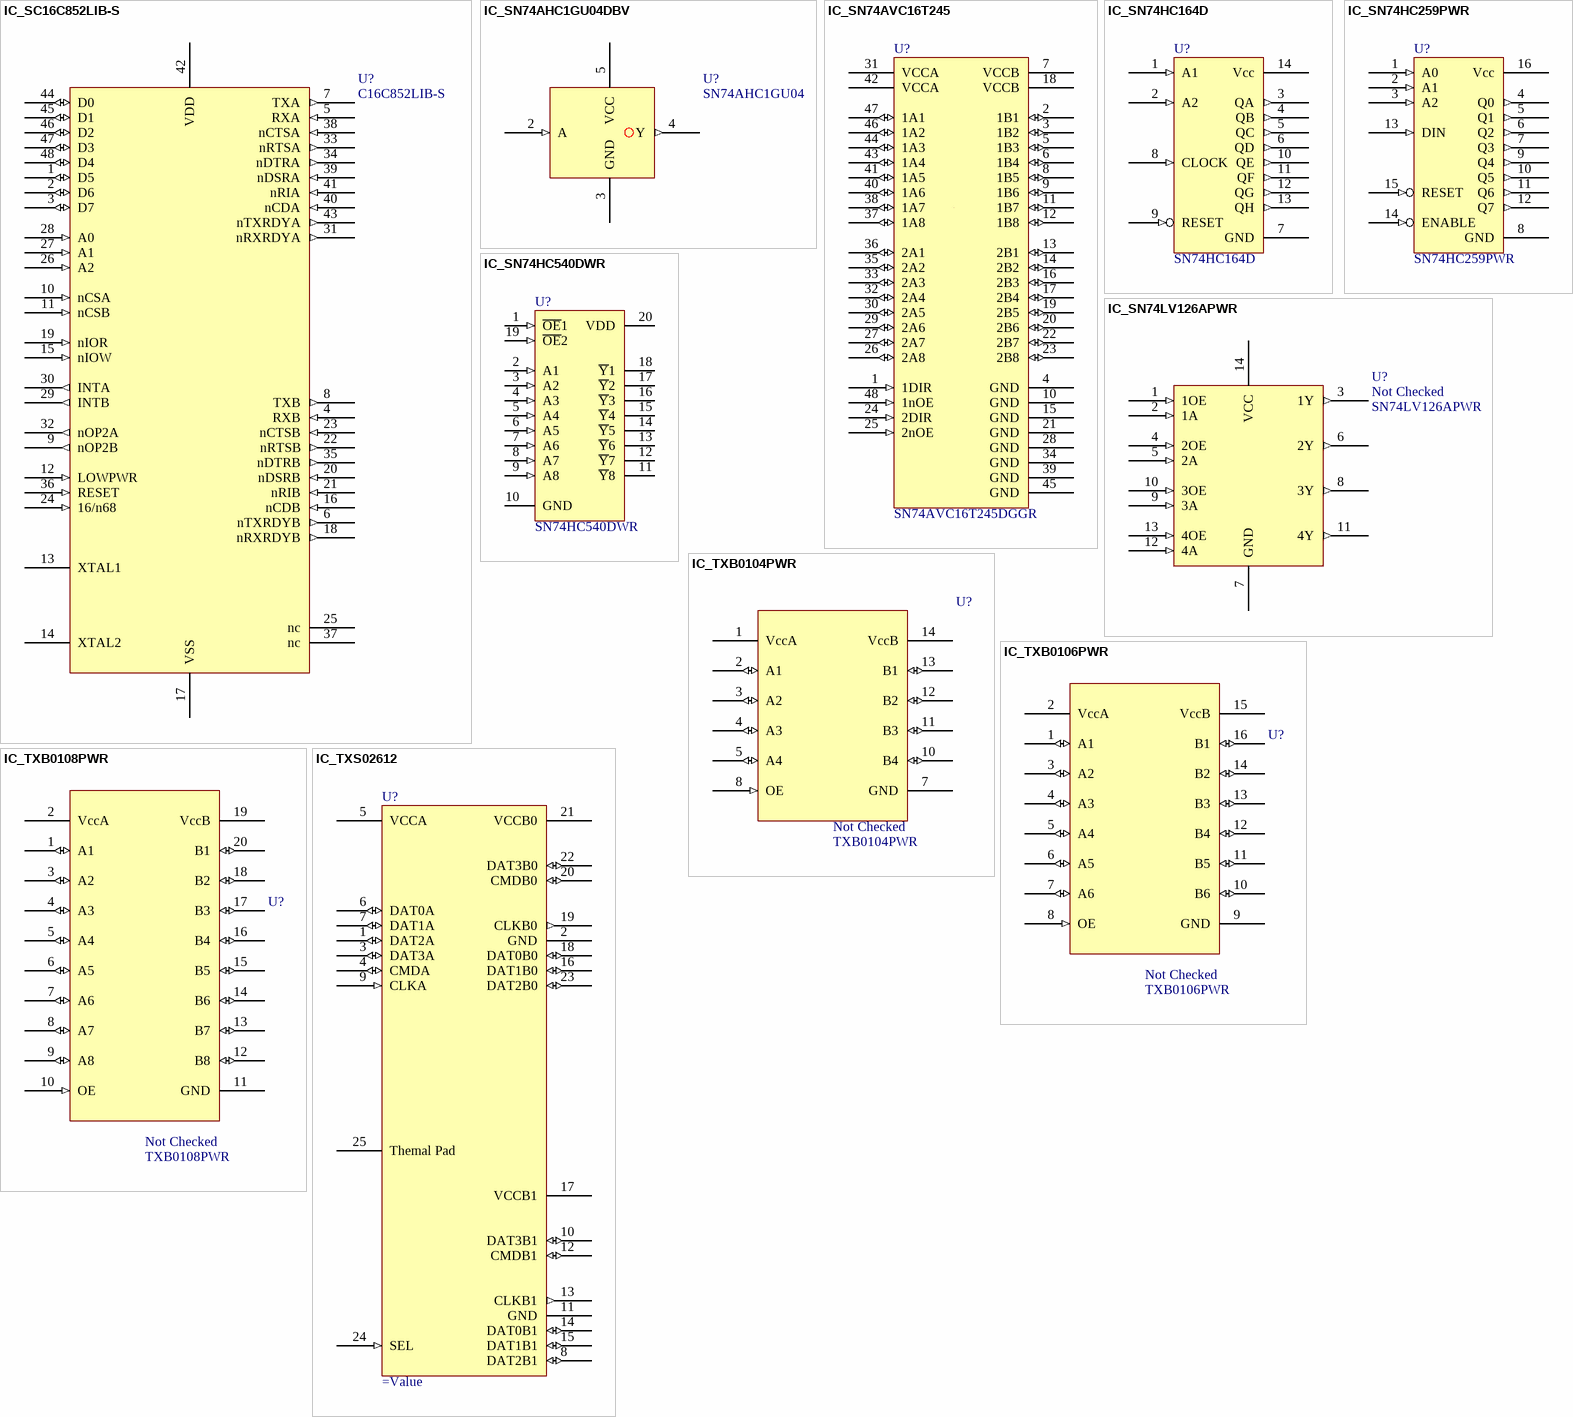
[diagram p4: symbols IC_SC16C852LIB-S to IC_TXS02612]

## IC_SC16C852LIB-S
designator U?, comment C16C852LIB-S
Dual high speed UARTs, bus connected
footprint LQFP-48 (TSQFP, 48-Leads, Body 9.1x9.1mm (max), Pitch 0.50mm, IPC Medium Density)
pins: 1 D5 (io), 2 D6 (io), 3 D7 (io), 4 RXB (in), 5 RXA (in), 6 nTXRDYB (out), 7 TXA (out), 8 TXB (out), 9 nOP2B (out), 10 nCSA (in), 11 nCSB (in), 12 LOWPWR (in), 13 XTAL1 (power), 14 XTAL2 (power), 15 nIOW (in), 16 nCDB (in), 17 VSS (power), 18 nRXRDYB (out), 19 nIOR (in), 20 nDSRB (in), 21 nRIB (in), 22 nRTSB (out), 23 nCTSB (in), 24 16/n68 (in), 25 nc, 26 A2 (in), 27 A1 (in), 28 A0 (in), 29 INTB (out), 30 INTA (out), 31 nRXRDYA (out), 32 nOP2A (out), 33 nRTSA (out), 34 nDTRA (out), 35 nDTRB (out), 36 RESET (in), 37 nc, 38 nCTSA (in), 39 nDSRA (in), 40 nCDA (in), 41 nRIA (in), 42 VDD (power), 43 nTXRDYA (out), 44 D0 (io), 45 D1 (io), 46 D2 (io), 47 D3 (io), 48 D4 (io)

## IC_SN74AHC1GU04DBV
designator U?, comment SN74AHC1GU04
Single Inverter Gate
pins: 1 NC hidden, 2 A (in), 3 GND, 4 Y (out), 5 VCC

## IC_SN74AVC16T245
designator U?, comment SN74AVC16T245DGGR
16-bit level-translating bus transceiver
pins: 1 1DIR (in), 2 1B1 (io), 3 1B2 (io), 4 GND (power), 5 1B3 (io), 6 1B4 (io), 7 VCCB (power), 8 1B5 (io), 9 1B6 (io), 10 GND (power), 11 1B7 (io), 12 1B8 (io), 13 2B1 (io), 14 2B2 (io), 15 GND (power), 16 2B3 (io), 17 2B4 (io), 18 VCCB (power), 19 2B5 (io), 20 2B6 (io), 21 GND (power), 22 2B7 (io), 23 2B8 (io), 24 2DIR (in), 25 2nOE (in), 26 2A8 (io), 27 2A7 (io), 28 GND (power), 29 2A6 (io), 30 2A5 (io), 31 VCCA (power), 32 2A4 (io), 33 2A3 (io), 34 GND (power), 35 2A2 (io), 36 2A1 (io), 37 1A8 (io), 38 1A7 (io), 39 GND (power), 40 1A6 (io), 41 1A5 (io), 42 VCCA (power), 43 1A4 (io), 44 1A3 (io), 45 GND (power), 46 1A2 (io), 47 1A1 (io), 48 1nOE (in)

## IC_SN74HC164D
designator U?  value SN74HC164D  (hidden comment: *)
IC 8-BIT SHIFT REGISTER 14-SOIC; Manufacturer: Texas Instrument; Prototype: Digikey 296-8247-5-ND; Manufacturer P/N: SN74HC164D
footprint G_SOIC-14 (SOIC, 14pin, 1.27mm pitch)
pins: 1 A1 (in), 2 A2 (in), 3 QA (out), 4 QB (out), 5 QC (out), 6 QD (out), 7 GND (power), 8 CLOCK (in), 9 RESET (in), 10 QE (out), 11 QF (out), 12 QG (out), 13 QH (out), 14 Vcc (power)

## IC_SN74HC259PWR
designator U?  value SN74HC259PWR  (hidden comment: *)
IC 8-BIT ADDRESS LATCH 16-TSSOP; Manufacturer: Texas Instrument; Prototype: Digikey 296-8292-1-ND; LastRevisionDate: n/a; Manufacturer P/N: SN74HC259PWR
footprint TSSOP16 (Shrink Small Outline; 16 Leads; Body Width 4.4 mm; Pitch 0.65 mm)
pins: 1 A0 (in), 2 A1 (in), 3 A2 (in), 4 Q0 (out), 5 Q1 (out), 6 Q2 (out), 7 Q3 (out), 8 GND (power), 9 Q4 (out), 10 Q5 (out), 11 Q6 (out), 12 Q7 (out), 13 DIN (in), 14 ENABLE (in), 15 RESET (in), 16 Vcc (power)